# Altium schematic symbol library Schematic-Lib-PhilsLab-DESKTOP-JMR591K.SchLib: 499 symbols (part 2 of 6)
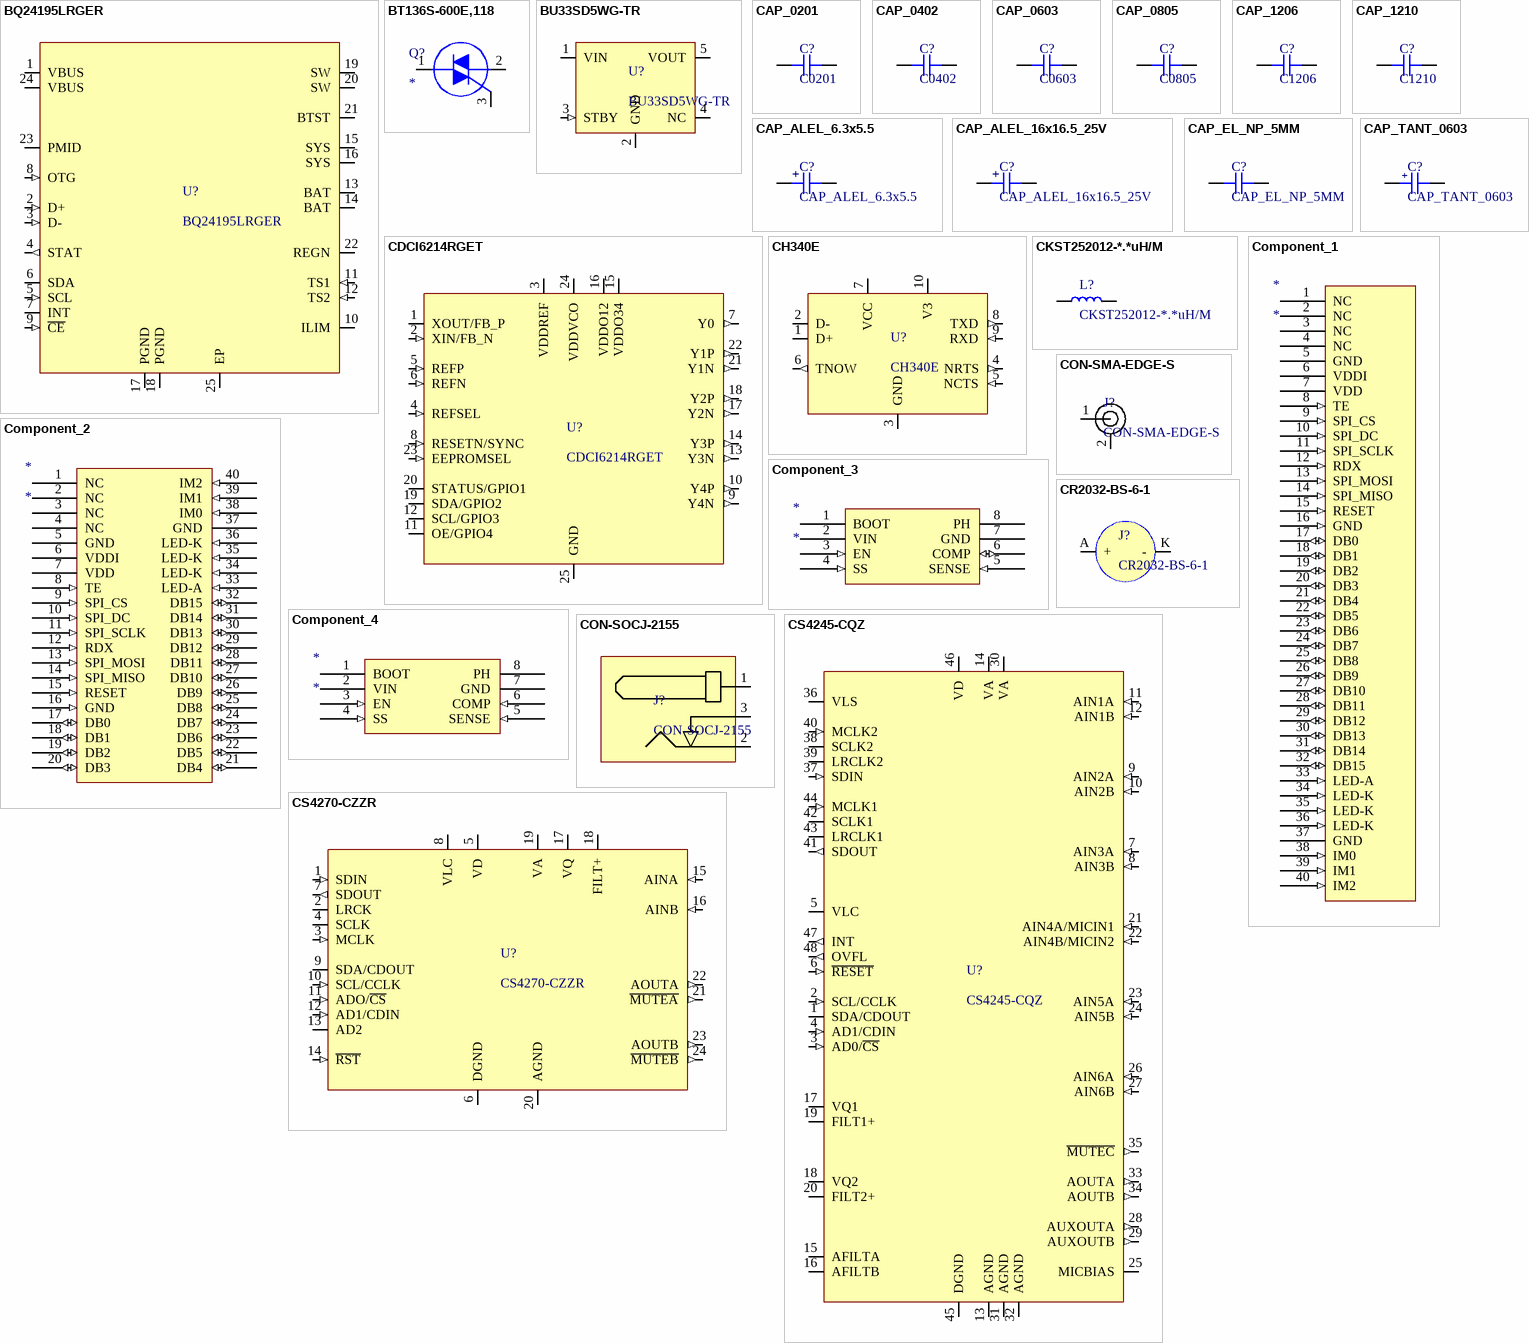
[diagram p36: symbols BQ24195LRGER to CS4270-CZZR]

## BU33SD5WG-TR
designator U?
LDO Voltage Regulator 3.3V 500mA; Manufacturer: ROHM Semiconductor; Manufacturer Part Number: BU33SD5WG-TR
footprint SOT-23-5 (SOT23, 5-Leads, Body 2,90x2,80mm, Pitch 0,95mm, IPC Medium Density)
pins: 1 VIN (power), 2 GND (power), 3 STBY (in), 4 NC, 5 VOUT (power)

## CAP_0201
designator C?, comment C0201
Capacitor SMD 0201; Manufacturer: *; Manufacturer Part Number: *; Distributor Link: *; LCSC: *; Rating: *; Dielectric: *
footprint CAP_0201
pins: 1, 2

## CAP_0402
designator C?, comment C0402
Capacitor SMD 0402; Manufacturer: *; Manufacturer Part Number: *; Distributor Link: *; LCSC: *; Rating: *; Dielectric: *
footprint CAP_0402
pins: 1, 2

## CAP_0603
designator C?, comment C0603
Capacitor SMD 0603; Manufacturer: *; Manufacturer Part Number: *; Distributor Link: *; LCSC: *; Rating: *; Dielectric: *
footprint CAP_0603
pins: 1, 2

## CAP_0805
designator C?, comment C0805
Capacitor SMD 0805; Manufacturer: *; Manufacturer Part Number: *; Distributor Link: *; LCSC: *; Rating: *; Dielectric: *
footprint CAP_0805
pins: 1, 2

## CAP_1206
designator C?, comment C1206
Capacitor SMD 1206; Manufacturer: *; Manufacturer Part Number: *; Distributor Link: *; LCSC: *; Rating: *; Dielectric: *
footprint CAP_1206
pins: 1, 2

## CAP_1210
designator C?, comment C1210
Capacitor SMD 1210; Manufacturer: *; Manufacturer Part Number: *; Distributor Link: *; LCSC: *; Rating: *; Dielectric: *
footprint CAP_1210
pins: 1, 2

## CAP_ALEL_6.3x5.5
designator C?
Capacitor SMD Aluminium Electrolytic 6.3mm Diameter 5.5mm Height; Manufacturer: *; Manufacturer Part Number: *; Distributor Link: *; LCSC: *
footprint CAP_AE_SMD_D6MM3_H5M55 (Aluminum Electrolytic Capacitor, Body 6.30x6.60x5.50mm, IPC Low Density)
pins: 1, 2
text: +

## CAP_ALEL_16x16.5_25V
designator C?
Capacitor SMD Aluminium Electrolytic 16x16.5mm 25V; Manufacturer: *; Manufacturer Part Number: *
footprint CAP_ALEL_16x16.5 (Aluminum Electrolytic Capacitor, Body 17.00x17.00x17.00mm, IPC Low Density)
pins: 1, 2
text: +

## CAP_EL_NP_5MM
designator C?
Capacitor SMD Electrolytic Non-Polarised 5mm Diameter; Manufacturer: Nichicon; Manufacturer Part Number: *
footprint CAP-EL-NP-5MM
pins: 1, 2

## CAP_TANT_0603
designator C?
Capacitor SMD Tantalum 0603; Manufacturer: *; Manufacturer Part Number: *; Distributor Link: *; LCSC: *
footprint CAP_TANT_0603
pins: A, K
text: +

## CDCI6214RGET
designator U?
Ultra-Low Power Clock Generator With PCIe Support Four Programmable Outputs and EEPROM; Manufacturer: Texas Instruments; Manufacturer Part Number: CDCI6214RGET; Distributor Link: https://eu.mouser.com/ProductDetail/Texas-Instruments/CDCI6214RGET?qs=HXFqYaX1Q2znJq%252BVfYpkgA%3D%3D; LCSC: C2651236
footprint VQFN-24-0MM5
pins: 1 XOUT/FB_P (io), 2 XIN/FB_N (in), 3 VDDREF (power), 4 REFSEL (in), 5 REFP (in), 6 REFN (in), 7 Y0 (out), 8 RESETN/SYNC (in), 9 Y4N (out), 10 Y4P (out), 11 OE/GPIO4 (io), 12 SCL/GPIO3 (io), 13 Y3N (out), 14 Y3P (out), 15 VDDO34 (power), 16 VDDO12 (power), 17 Y2N (out), 18 Y2P (out), 19 SDA/GPIO2 (io), 20 STATUS/GPIO1 (io), 21 Y1N (out), 22 Y1P (out), 23 EEPROMSEL (in), 24 VDDVCO (power), 25 GND (power)

## CH340E
designator U?
USB-to-UART Transceiver MSOP-10; Manufacturer Part Number: CH340E
footprint MSOP-10
pins: 1 D+ (io), 2 D- (io), 3 GND (power), 4 NRTS (out), 5 NCTS (in), 6 TNOW (out), 7 VCC (power), 8 TXD (out), 9 RXD (in), 10 V3 (power)

## CKST252012-*.*uH/M
designator L?
Inductor SMD Shielded 20%; Manufacturer: Shenzhen Cenker Enterprise Ltd; Manufacturer Part Number: CKST252012-*.*uH/M; Distributor Link: *
footprint CKST252012
pins: 1, 2

## Component_1
designator *
footprint TFT 3.5 Screen
pins: 1 NC (oc), 2 NC (oc), 3 NC (oc), 4 NC (oc), 5 GND (power), 6 VDDI (power), 7 VDD (power), 8 TE (in), 9 SPI_CS (in), 10 SPI_DC (in), 11 SPI_SCLK (in), 12 RDX (in), 13 SPI_MOSI (in), 14 SPI_MISO (in), 15 RESET (in), 16 GND (in), 17 DB0 (io), 18 DB1 (io), 19 DB2 (io), 20 DB3 (io), 21 DB4 (io), 22 DB5 (io), 23 DB6 (io), 24 DB7 (io), 25 DB8 (io), 26 DB9 (io), 27 DB10 (io), 28 DB11 (io), 29 DB12 (io), 30 DB13 (io), 31 DB14 (io), 32 DB15 (io), 33 LED-A (in), 34 LED-K (in), 35 LED-K (in), 36 LED-K (in), 37 GND (power), 38 IM0 (in), 39 IM1 (in), 40 IM2 (in)

## Component_2
designator *
pins: 1 NC (oc), 2 NC (oc), 3 NC (oc), 4 NC (oc), 5 GND (power), 6 VDDI (power), 7 VDD (power), 8 TE (in), 9 SPI_CS (in), 10 SPI_DC (in), 11 SPI_SCLK (in), 12 RDX (in), 13 SPI_MOSI (in), 14 SPI_MISO (in), 15 RESET (in), 16 GND (in), 17 DB0 (io), 18 DB1 (io), 19 DB2 (io), 20 DB3 (io), 21 DB4 (io), 22 DB5 (io), 23 DB6 (io), 24 DB7 (io), 25 DB8 (io), 26 DB9 (io), 27 DB10 (io), 28 DB11 (io), 29 DB12 (io), 30 DB13 (io), 31 DB14 (io), 32 DB15 (io), 33 LED-A (in), 34 LED-K (in), 35 LED-K (in), 36 LED-K (in), 37 GND (power), 38 IM0 (in), 39 IM1 (in), 40 IM2 (in)

## Component_3
designator *
footprint SOIC127P600X175-8N (SOIC, 8-Leads, Body 4.91x3.90mm, Pitch 1.27mm, IPC Medium Density)
pins: 1 BOOT (power), 2 VIN (power), 3 EN (in), 4 SS (in), 5 SENSE (in), 6 COMP (io), 7 GND (power), 8 PH (power)

## Component_4
designator *
pins: 1 BOOT (power), 2 VIN (power), 3 EN (in), 4 SS (in), 5 SENSE (in), 6 COMP (in), 7 GND (power), 8 PH (power)

## CON-SMA-EDGE-S
designator J?
RF Connector SMA Female 50 Ohms 18 GHz PCB Edge Mount; Manufacturer: RF Solutions; Manufacturer Part Number: CON-SMA-EDGE-S
footprint CON-SMA-EDGE-S
pins: 1, 2

## CON-SOCJ-2155
designator J?
DC Barrell Jack 2.1mm 30V 2.5A THT; Manufacturer: Gravitech; Manufacturer Part Number: CON-SOCJ-2155
footprint CON-SOCJ-2155
pins: 1, 2, 3

## CR2032-BS-6-1
designator J?
CR2032 Coin Cell Battery Holder; Manufacturer: Q&J; Manufacturer Part Number: CR2032-BS-6-1
footprint CR2032
pins: A +, K -

## CS4245-CQZ
designator U?
104 dB, 24-Bit, 192 kHz Stereo Audio Codec; Manufacturer: Cirrus Logic; Manufacturer Part Number: CS4245-CQZ
footprint LQFP-48
pins: 1 SDA/CDOUT (io), 2 SCL/CCLK (in), 3 AD0/~{CS} (in), 4 AD1/CDIN (in), 5 VLC (power), 6 ~{RESET} (in), 7 AIN3A (in), 8 AIN3B (in), 9 AIN2A (in), 10 AIN2B (in), 11 AIN1A (in), 12 AIN1B (in), 13 AGND (power), 14 VA (power), 15 AFILTA (power), 16 AFILTB (power), 17 VQ1 (power), 18 VQ2 (power), 19 FILT1+ (power), 20 FILT2+ (power), 21 AIN4A/MICIN1 (in), 22 AIN4B/MICIN2 (in), 23 AIN5A (in), 24 AIN5B (in), 25 MICBIAS (power), 26 AIN6A (in), 27 AIN6B (in), 28 AUXOUTA (out), 29 AUXOUTB (out), 30 VA (power), 31 AGND (power), 32 AGND (power), 33 AOUTA (out), 34 AOUTB (out), 35 ~{MUTEC} (out), 36 VLS (power), 37 SDIN (in), 38 SCLK2 (io), 39 LRCLK2 (io), 40 MCLK2 (in), 41 SDOUT (out), 42 SCLK1 (io), 43 LRCLK1 (io), 44 MCLK1 (in), 45 DGND (power), 46 VD (power), 47 INT (out), 48 OVFL (out)

## CS4270-CZZR
designator U?
24-Bit 192kHz Stereo Audio Codec TSSOP-24; Manufacturer: Cirrus Logic; Manufacturer Part Number: CS4270-CZZR
footprint TSSOP-24
pins: 1 SDIN (in), 2 LRCK (io), 3 MCLK (in), 4 SCLK (io), 5 VD (power), 6 DGND (power), 7 SDOUT (out), 8 VLC (power), 9 SDA/CDOUT (io), 10 SCL/CCLK (in), 11 ADO/~{CS} (in), 12 AD1/CDIN (in), 13 AD2, 14 ~{RST} (in), 15 AINA (in), 16 AINB (in), 17 VQ (power), 18 FILT+ (power), 19 VA (power), 20 AGND (power), 21 ~{MUTEA} (out), 22 AOUTA (out), 23 AOUTB (out), 24 ~{MUTEB} (out)

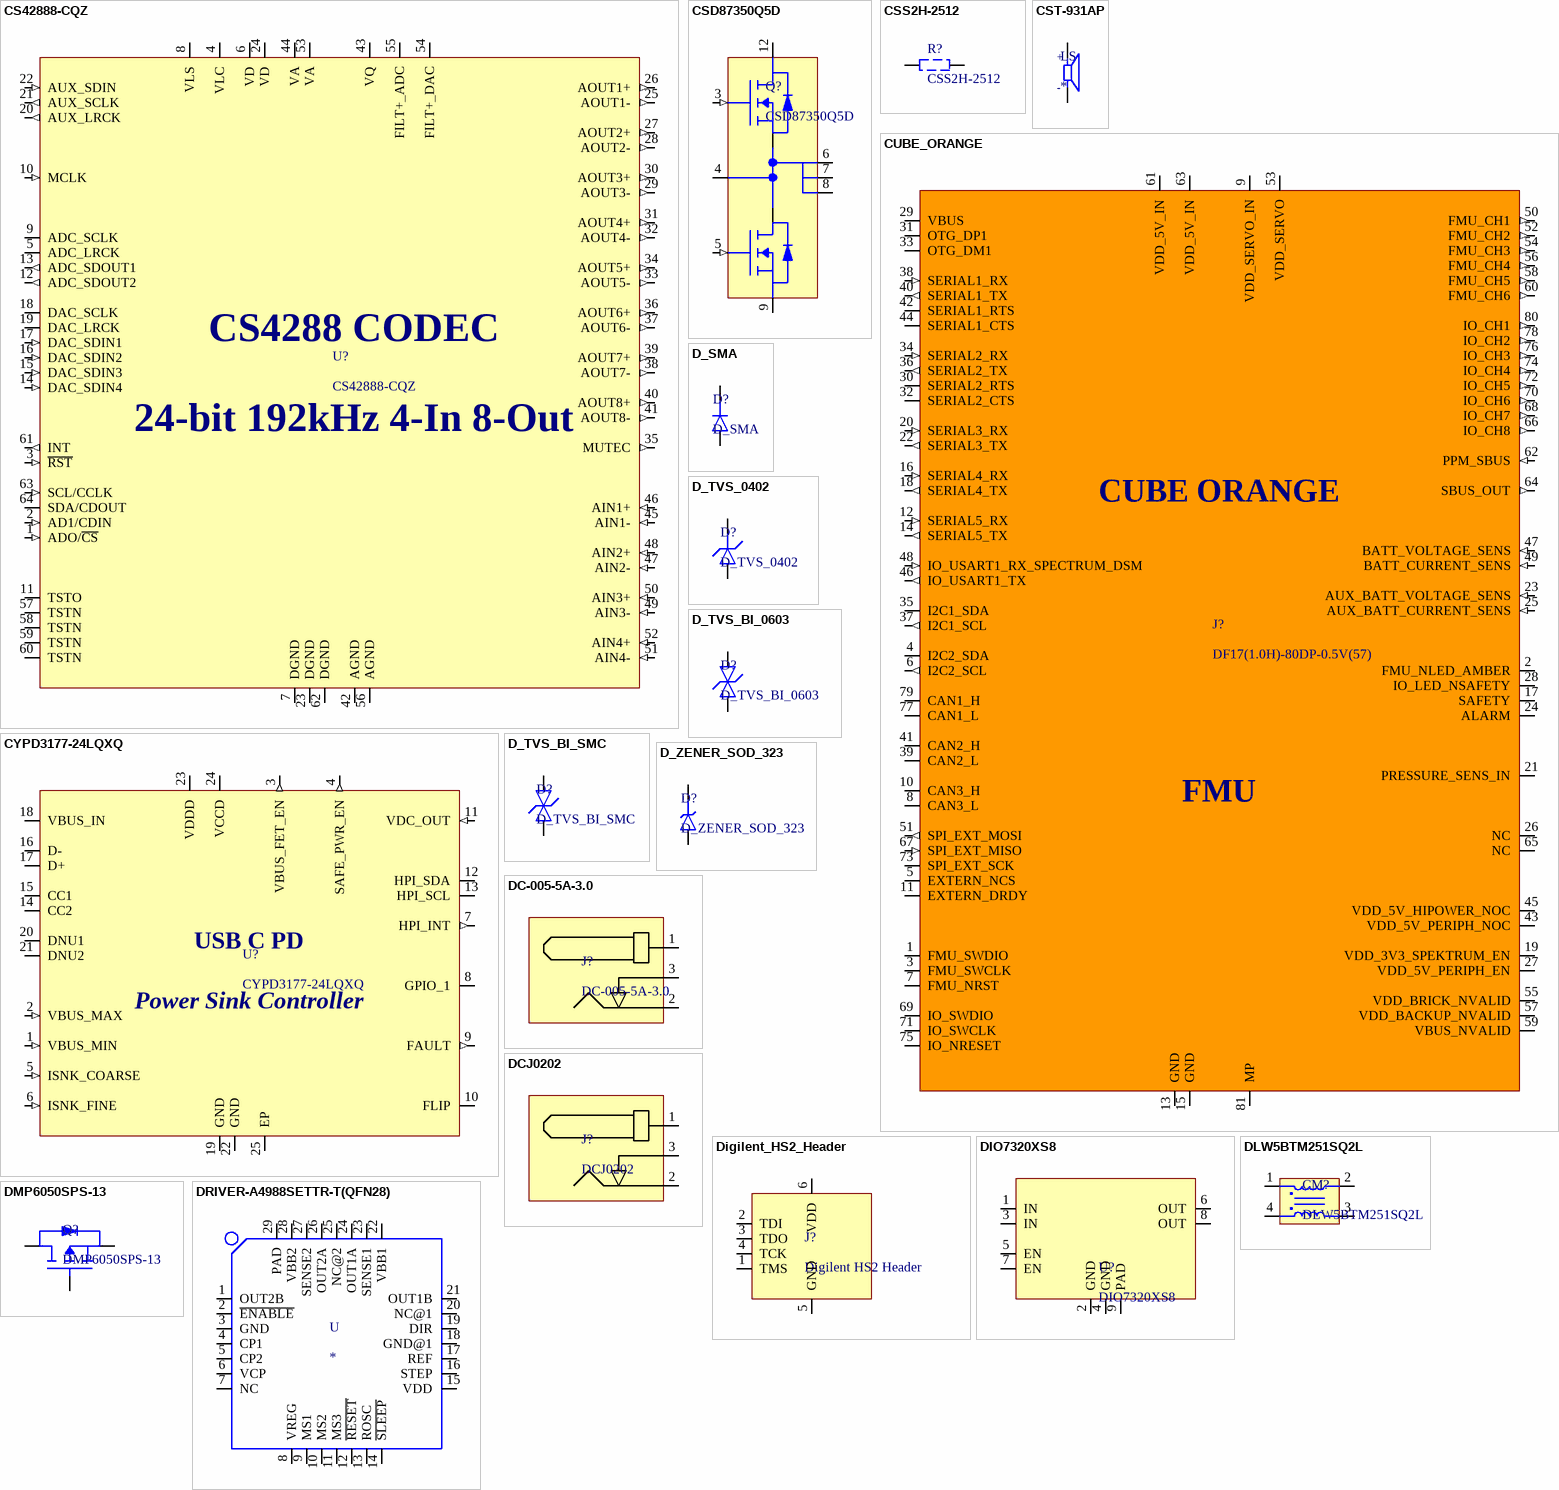
[diagram p8: symbols CS42888-CQZ to DRIVER-A4988SETTR-T(QFN28)]

## CS42888-CQZ
designator U?
CODEC 108dB 192kHz 4-In 8-Out LQFP-64 Commercial Grade; Manufacturer: Cirrus Logic; Manufacturer Part Number: CS42888-CQZ
footprint LQFP-64-0.5mm (TSQFP, 64-Leads, Body 10.00x10.00mm, Pitch 0.50mm, IPC Medium Density)
pins: 1 ADO/~{CS} (in), 2 AD1/CDIN (in), 3 ~{RST} (in), 4 VLC (power), 5 ADC_LRCK (io), 6 VD (power), 7 DGND (power), 8 VLS (power), 9 ADC_SCLK (io), 10 MCLK (in), 11 TSTO, 12 ADC_SDOUT2 (out), 13 ADC_SDOUT1 (out), 14 DAC_SDIN4 (in), 15 DAC_SDIN3 (in), 16 DAC_SDIN2 (in), 17 DAC_SDIN1 (in), 18 DAC_SCLK (io), 19 DAC_LRCK (io), 20 AUX_LRCK (out), 21 AUX_SCLK (out), 22 AUX_SDIN (in), 23 DGND (power), 24 VD (power), 25 AOUT1- (out), 26 AOUT1+ (out), 27 AOUT2+ (out), 28 AOUT2- (out), 29 AOUT3- (out), 30 AOUT3+ (out), 31 AOUT4+ (out), 32 AOUT4- (out), 33 AOUT5- (out), 34 AOUT5+ (out), 35 MUTEC (out), 36 AOUT6+ (out), 37 AOUT6- (out), 38 AOUT7- (out), 39 AOUT7+ (out), 40 AOUT8+ (out), 41 AOUT8- (out), 42 AGND (power), 43 VQ (power), 44 VA (power), 45 AIN1- (in), 46 AIN1+ (in), 47 AIN2- (in), 48 AIN2+ (in), 49 AIN3- (in), 50 AIN3+ (in), 51 AIN4- (in), 52 AIN4+ (in), 53 VA (power), 54 FILT+_DAC (power), 55 FILT+_ADC (power), 56 AGND (power), 57 TSTN, 58 TSTN, 59 TSTN, 60 TSTN, 61 INT (out), 62 DGND (power), 63 SCL/CCLK (in), 64 SDA/CDOUT (io)
text: CS4288 CODEC; 24-bit 192kHz 4-In 8-Out

## CSD87350Q5D
designator Q?
Synchronous Buck NexFET™ Power Block; Manufacturer: Texas Instruments; Manufacturer Part Number: CSD87350Q5D; Distributor Link: https://eu.mouser.com/ProductDetail/Texas-Instruments/CSD87350Q5D?qs=JoYuLptCJEEhVuDl%2F9%2FpHA%3D%3D; LCSC: C140356
footprint LSON-CLIP-8
pins: 3 TG (in), 4 TGR, 5 BG (in), 6 VSW (power), 7 VSW (power), 8 VSW (power), 9 PGND (power), 12 VIN (power), D, S

## CSS2H-2512
designator R?
Current Sense Resistor SMD CSS2H-2512; Manufacturer: Bourns; Manufacturer Part Number: CSS2H-2512
footprint CSS2H-2512
pins: 1, 2

## CST-931AP
designator LS
9 mm, 3 V, 85 dB, Through Hole, Magnetic Audio Transducer Buzzer; MP: CST-931AP; MF: CUI Devices; Price: None; Availability: Unavailable; Package: CUI Inc.; CUI_purchase_URL: https://www.cuidevices.com/product/audio/buzzers/audio-transducers/cst-931ap?utm_source=snapeda.com&utm_medium=referral&utm_campaign=snapedaBOM; Value: *; SnapEDA_Link: https://www.snapeda.com/parts/CST-931AP/CUI%20Devices/view-part/1551284/?ref=snap
footprint CUI_CST-931AP
pins: M, P
text: +; -

## CUBE_ORANGE
designator J?, comment DF17(1.0H)-80DP-0.5V(57)
Cube Orange Pinout (Hirose DF17(1.0H)-80DP-0.5V(57) Connector); Manufacturer: Hirose; Manufacturer Part Number: DF17(1.0H)-80DP-0.5V(57)
footprint CUBE_ORANGE
pins: 1 FMU_SWDIO, 2 FMU_NLED_AMBER, 3 FMU_SWCLK, 4 I2C2_SDA (io), 5 EXTERN_NCS, 6 I2C2_SCL (out), 7 FMU_NRST, 8 CAN3_L (io), 9 VDD_SERVO_IN, 10 CAN3_H (io), 11 EXTERN_DRDY, 12 SERIAL5_RX (in), 13 GND, 14 SERIAL5_TX (out), 15 GND, 16 SERIAL4_RX (in), 17 SAFETY, 18 SERIAL4_TX (out), 19 VDD_3V3_SPEKTRUM_EN, 20 SERIAL3_RX (in), 21 PRESSURE_SENS_IN, 22 SERIAL3_TX (out), 23 AUX_BATT_VOLTAGE_SENS (in), 24 ALARM, 25 AUX_BATT_CURRENT_SENS (in), 26 NC, 27 VDD_5V_PERIPH_EN, 28 IO_LED_NSAFETY, 29 VBUS, 30 SERIAL2_RTS, 31 OTG_DP1 (io), 32 SERIAL2_CTS, 33 OTG_DM1 (io), 34 SERIAL2_RX (in), 35 I2C1_SDA (io), 36 SERIAL2_TX (out), 37 I2C1_SCL (out), 38 SERIAL1_RX (in), 39 CAN2_L (io), 40 SERIAL1_TX (out), 41 CAN2_H (io), 42 SERIAL1_RTS, 43 VDD_5V_PERIPH_NOC, 44 SERIAL1_CTS, 45 VDD_5V_HIPOWER_NOC, 46 IO_USART1_TX (out), 47 BATT_VOLTAGE_SENS (in), 48 IO_USART1_RX_SPECTRUM_DSM (in), 49 BATT_CURRENT_SENS (in), 50 FMU_CH1 (out), 51 SPI_EXT_MOSI (out), 52 FMU_CH2 (out), 53 VDD_SERVO, 54 FMU_CH3 (out), 55 VDD_BRICK_NVALID, 56 FMU_CH4 (out), 57 VDD_BACKUP_NVALID, 58 FMU_CH5 (out), 59 VBUS_NVALID, 60 FMU_CH6 (out), 61 VDD_5V_IN, 62 PPM_SBUS (in), 63 VDD_5V_IN, 64 SBUS_OUT (out), 65 NC, 66 IO_CH8 (out), 67 SPI_EXT_MISO (in), 68 IO_CH7 (out), 69 IO_SWDIO, 70 IO_CH6 (out), 71 IO_SWCLK, 72 IO_CH5 (out), 73 SPI_EXT_SCK, 74 IO_CH4 (out), 75 IO_NRESET, 76 IO_CH3 (out), 77 CAN1_L (io), 78 IO_CH2 (out), 79 CAN1_H (io), 80 IO_CH1 (out), 81 MP
text: CUBE ORANGE; FMU

## CYPD3177-24LQXQ
designator U?
USB Type-C Port Controller for Power Sinks; Manufacturer: Cypress Semicon; Manufacturer Part Number: CYPD3177-24LQXQ; Distributor Link: https://www.lcsc.com/product-detail/USB-ICs_Cypress-Semicon-CYPD3177-24LQXQ_C2959321.html
footprint QFN-24-0MM5
pins: 1 VBUS_MIN (in), 2 VBUS_MAX (in), 3 VBUS_FET_EN (out), 4 SAFE_PWR_EN (out), 5 ISNK_COARSE (in), 6 ISNK_FINE (in), 7 HPI_INT (out), 8 GPIO_1 (io), 9 FAULT (out), 10 FLIP (oc), 11 VDC_OUT (in), 12 HPI_SDA (oc), 13 HPI_SCL (oc), 14 CC2 (io), 15 CC1 (io), 16 D-, 17 D+, 18 VBUS_IN (power), 19 GND (power), 20 DNU1, 21 DNU2, 22 GND (power), 23 VDDD (power), 24 VCCD (power), 25 EP (power)
text: USB C PD; Power Sink Controller

## D_SMA
designator D?
Diode SMD SMA (DO-214AA)
footprint DO-214AC-2 (SMA)
pins: A, K

## D_TVS_0402
designator D?
Diode TVS / ESD 0402
footprint D_0402
pins: A, K

## D_TVS_BI_0603
designator D?
Diode TVS / ESD Bidirectional 0603; Manufacturer: *; Manufacturer Part Number: *
footprint D_0603
pins: A, K

## D_TVS_BI_SMC
designator D?
Diode TVS / ESD Bidirectional SMC (DO-214AB); Manufacturer: *; Manufacturer Part Number: *; Distributor Link: *
footprint SMC-DO-214AB
pins: A, K

## D_ZENER_SOD_323
designator D?
Diode Zener SMD SOD-323
footprint SOD-323
pins: A, K

## DC-005-5A-3.0
designator J?
DC Barrell Jack 6.2mm 5 A3.0mm Through Hole; Parameter 1: XKB; Parameter 2: DC-005-5A-3.0
footprint DC-005-5A-3.0
pins: 1, 2, 3

## DCJ0202
designator J?
DC Barrell Jack 2.1mm 24V 5A THT; Manufacturer: CONEC; Manufacturer Part Number: DCJ0202
footprint DCJ0202
pins: 1, 2, 3

## Digilent_HS2_Header
designator J?, comment Digilent HS2 Header
Digilent HS2 6-Pin 2.54mm Pitch Header; Manufacturer: Amphenol FCI; Manufacturer Part Number: 68000-406HLF
footprint DIGILENT_HS2
pins: 1 TMS, 2 TDI, 3 TDO, 4 TCK, 5 GND (power), 6 VDD (power)

## DIO7320XS8
designator U?
Power Distribution 5.5V 5A Load switch with slew rate control and reverse current blocking; Manufacturer: DIOO; Manufacturer Part Number: DIO7320XS8
footprint SOIC127P600X165_HS-9N (SOIC, 8-Leads, Body 4.90x3.90mm, Pitch 1.27mm, Thermal Pad 3.10x2.21mm, IPC Medium Density)
pins: 1 IN, 2 GND, 3 IN, 4 GND, 5 EN, 6 OUT, 7 EN, 8 OUT, 9 PAD

## DLW5BTM251SQ2L
designator CM?
Common Mode Choke 5A 250R 20mR; Manufacturer: Murata; Manufacturer Part Number: DLW5BTM251SQ2L; Distributor Link: https://www.mouser.de/ProductDetail/Murata-Electronics/DLW5BTM251SQ2L?qs=6RPrPjhwTH9TmsO%252BRNiuwA%3D%3D; LCSC: C576407
footprint CMC-2020
pins: 1, 2, 3, 4

## DMP6050SPS-13
designator Q?
MOSFET P-Channel Vds=60V Vgs=+-20V Id=26A Rds(on|=50mOhms; Manufacturer: Diodes Incorporated; Manufacturer Part Number: DMP6050SPS-13
footprint PowerDI5060-8
pins: 1 D, 2 G, 3 S

## DRIVER-A4988SETTR-T(QFN28)
designator U
Bipolar Motor Driver DMOS Logic 28-QFN _5x5_; MF: Allegro MicroSystems LLC; MP: A4988SETTRT; Price: None; Availability: Unavailable; SnapEDA_Link: https://www.snapeda.com/parts/A4988SETTRT/Allegro%20MicroSystems%20LLC/view-part/75870/?ref=snap; Value: *; Package: QFN-28 Allegro MicroSystems LLC
footprint QFN28G_0.5-5X5MM
pins: 1 OUT2B (io), 2 ~{ENABLE} (io), 3 GND (io), 4 CP1 (io), 5 CP2 (io), 6 VCP (io), 7 NC (io), 8 VREG (io), 9 MS1 (io), 10 MS2 (io), 11 MS3 (io), 12 ~{RESET} (io), 13 ROSC (io), 14 ~{SLEEP} (io), 15 VDD (io), 16 STEP (io), 17 REF (io), 18 GND@1 (io), 19 DIR (io), 20 NC@1 (io), 21 OUT1B (io), 22 VBB1 (io), 23 SENSE1 (io), 24 OUT1A (io), 25 NC@2 (io), 26 OUT2A (io), 27 SENSE2 (io), 28 VBB2 (io), 29 PAD (io)

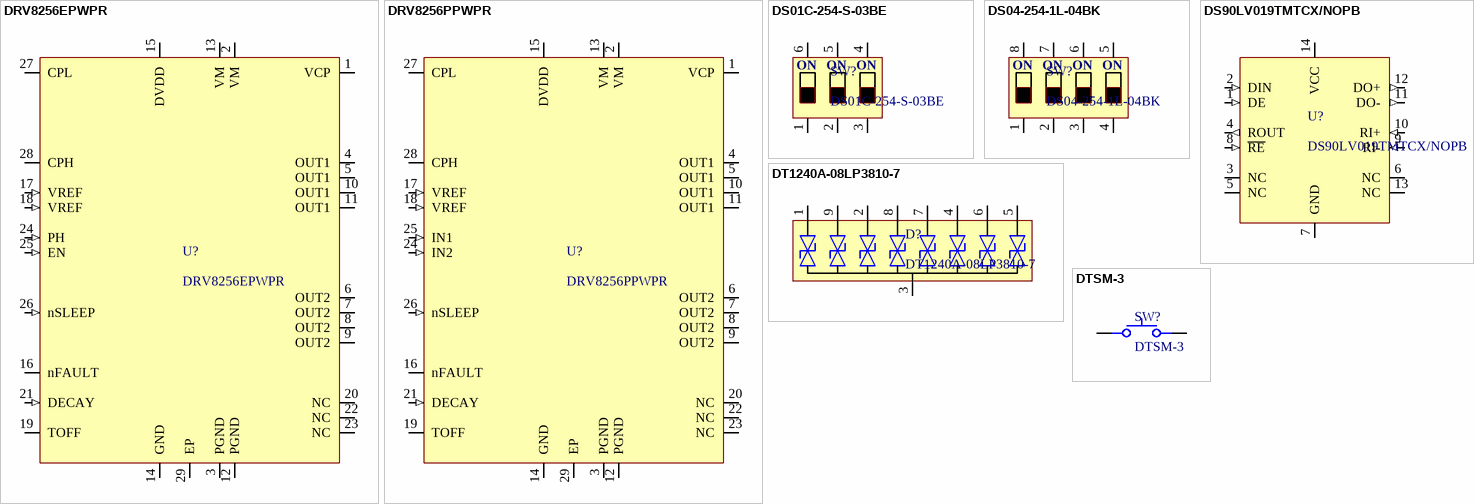
[diagram p9: symbols DRV8256EPWPR to DTSM-3]

## DRV8256EPWPR
designator U?
H-Bridge Motor Driver With Integrated Current Sense, 4.5V to 48V, 8A; Manufacturer: Texas Instruments; Manufacturer Part Number: DRV8256EPWPR
footprint TSSOP-28-PowerPAD (TSOP, 28-Leads, Body 9.70x4.40mm, Pitch 0.65mm, Thermal Pad 4.05x3.10mm, IPC Medium Density)
pins: 1 VCP (power), 2 VM (power), 3 PGND (power), 4 OUT1 (power), 5 OUT1 (power), 6 OUT2 (power), 7 OUT2 (power), 8 OUT2 (power), 9 OUT2 (power), 10 OUT1 (power), 11 OUT1 (power), 12 PGND (power), 13 VM (power), 14 GND (power), 15 DVDD (power), 16 nFAULT (oc), 17 VREF (in), 18 VREF (in), 19 TOFF, 20 NC, 21 DECAY (in), 22 NC, 23 NC, 24 PH (in), 25 EN (in), 26 nSLEEP (in), 27 CPL (power), 28 CPH (power), 29 EP (power)

## DRV8256PPWPR
designator U?
H-Bridge Motor Driver With Integrated Current Sense, 4.5V to 48V, 8A; Manufacturer: Texas Instruments; Manufacturer Part Number: DRV8256PPWPR
footprint TSSOP-28-PowerPAD (TSOP, 28-Leads, Body 9.70x4.40mm, Pitch 0.65mm, Thermal Pad 4.05x3.10mm, IPC Medium Density)
pins: 1 VCP (power), 2 VM (power), 3 PGND (power), 4 OUT1 (power), 5 OUT1 (power), 6 OUT2 (power), 7 OUT2 (power), 8 OUT2 (power), 9 OUT2 (power), 10 OUT1 (power), 11 OUT1 (power), 12 PGND (power), 13 VM (power), 14 GND (power), 15 DVDD (power), 16 nFAULT (oc), 17 VREF (in), 18 VREF (in), 19 TOFF, 20 NC, 21 DECAY (in), 22 NC, 23 NC, 24 IN2 (in), 25 IN1 (in), 26 nSLEEP (in), 27 CPL (power), 28 CPH (power), 29 EP (power)

## DS01C-254-S-03BE
designator SW?
DIP Switch SPST 3 Positions Short Pins 2.54mm Pitch; Manufacturer: CUI Devices; Manufacturer Part Number: DS01C-254-S-03BE
footprint DS01C-254-S-03BE
pins: 1, 2, 3, 4, 5, 6
text: ON

## DS04-254-1L-04BK
designator SW?
DIP Switch SPST 4 Positions Short Pins 2.54mm Pitch; Manufacturer: CUI Devices; Manufacturer Part Number: DS04-254-1L-04BK; Distributor Link: https://www.mouser.de/ProductDetail/CUI-Devices/DS04-254-1L-04BK?qs=wnTfsH77Xs6GCysQKZgHrw%3D%3D
footprint DS04-254-1L-04BK
pins: 1, 2, 3, 4, 5, 6, 7, 8
text: ON

## DS90LV019TMTCX/NOPB
designator U?
LVDS Driver/Receiver; Manufacturer: Texas Instruments; Manufacturer Part Number: DS90LV019TMTCX/NOPB; Distributor Link: https://eu.mouser.com/ProductDetail/Texas-Instruments/DS90LV019TMTCX-NOPB?qs=X1J7HmVL2ZGfxU9NrWVkiA%3D%3D; LCSC: C87061
footprint TSSOP-14
pins: 1 DE (in), 2 DIN (in), 3 NC, 4 ROUT (out), 5 NC, 6 NC, 7 GND (power), 8 ~{RE} (in), 9 RI- (in), 10 RI+ (in), 11 DO- (out), 12 DO+ (out), 13 NC, 14 VCC (power)

## DT1240A-08LP3810-7
designator D?
8-CHANNEL LOW CAPACITANCE TVS DIODE ARRAY 0.6pF; Manufacturer: Diodes Incorporated; Manufacturer Part Number: DT1240A-08LP3810-7
footprint DFN3810B-9
pins: 1 L1, 2 L3, 3 GND (power), 4 L6, 5 L8, 6 L7, 7 L5, 8 L4, 9 L2

## DTSM-3
designator SW?
Tactile Switch SMD SPST; Manufacturer: Diptronics; Manufacturer Part Number: DTSM-3
footprint DTSM-3
pins: 1, 2

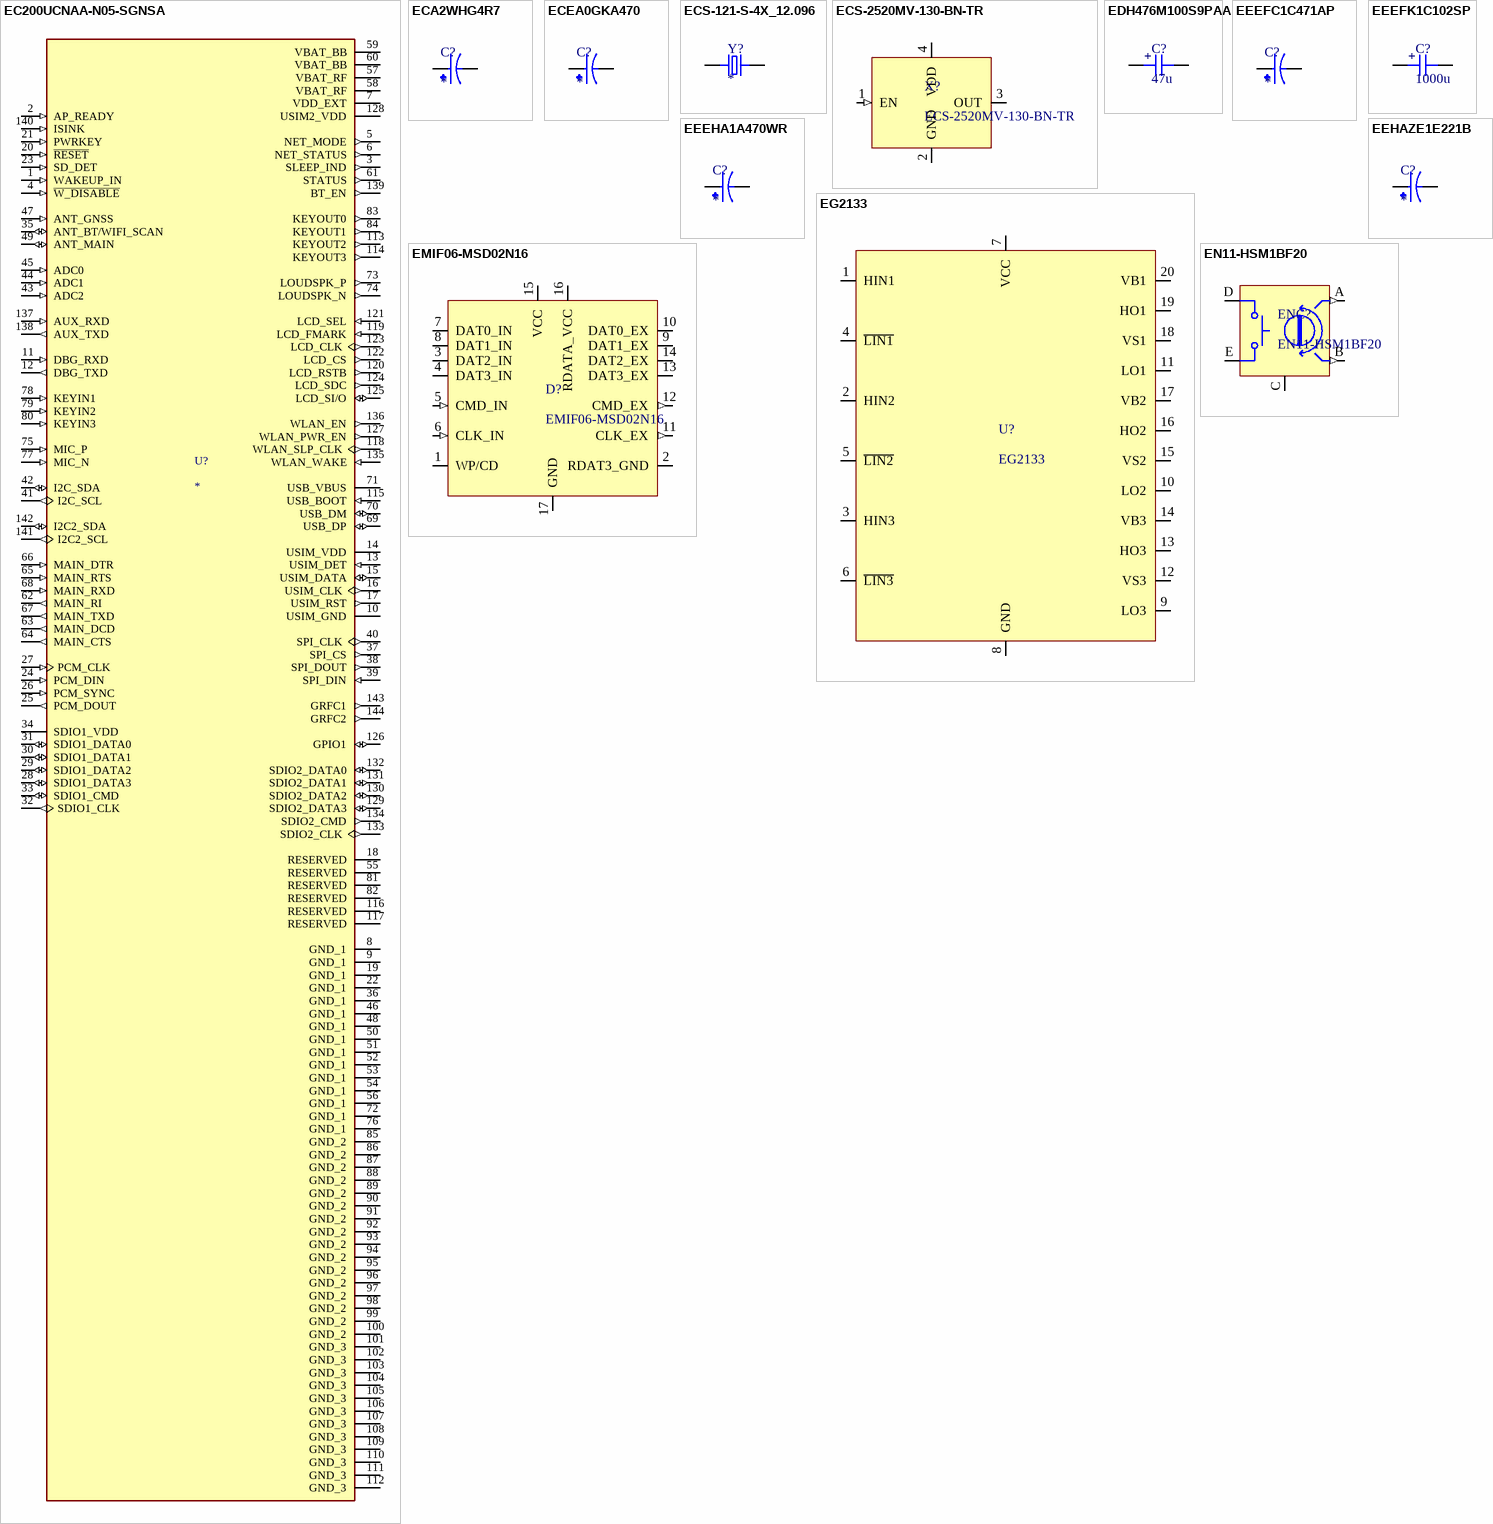
[diagram p10: symbols EC200UCNAA-N05-SGNSA to EN11-HSM1BF20]

## EC200UCNAA-N05-SGNSA
designator U?
Quectel 4G LTE Cat 1 wireless BT GNSS module; MP: EC200UCNAA-N05-SGNSA; SnapEDA_Link: https://www.snapeda.com/parts/EC200UCNAA-N05-SGNSA/Quectel/view-part/?ref=snap; Package: None; Value: *; MF: Quectel; Check_prices: https://www.snapeda.com/parts/EC200UCNAA-N05-SGNSA/Quectel/view-part/?ref=eda
footprint XCVR_EC200UCNAA-N05-SGNSA
pins: 1 WAKEUP_IN (in), 2 AP_READY (in), 3 SLEEP_IND (out), 4 ~{W_DISABLE} (in), 5 NET_MODE (out), 6 NET_STATUS (out), 7 VDD_EXT (power), 8 GND_1 (power), 9 GND_1 (power), 10 USIM_GND (power), 11 DBG_RXD (in), 12 DBG_TXD (out), 13 USIM_DET (in), 14 USIM_VDD (power), 15 USIM_DATA (io), 16 USIM_CLK (out), 17 USIM_RST (out), 18 RESERVED, 19 GND_1 (power), 20 ~{RESET} (in), 21 PWRKEY (in), 22 GND_1 (power), 23 SD_DET (in), 24 PCM_DIN (in), 25 PCM_DOUT (out), 26 PCM_SYNC (in), 27 PCM_CLK (in), 28 SDIO1_DATA3 (io), 29 SDIO1_DATA2 (io), 30 SDIO1_DATA1 (io), 31 SDIO1_DATA0 (io), 32 SDIO1_CLK (out), 33 SDIO1_CMD (io), 34 SDIO1_VDD (power), 35 ANT_BT/WIFI_SCAN (io), 36 GND_1 (power), 37 SPI_CS (out), 38 SPI_DOUT (out), 39 SPI_DIN (in), 40 SPI_CLK (out), 41 I2C_SCL (out), 42 I2C_SDA (io), 43 ADC2 (in), 44 ADC1 (in), 45 ADC0 (in), 46 GND_1 (power), 47 ANT_GNSS (in), 48 GND_1 (power), 49 ANT_MAIN (io), 50 GND_1 (power), 51 GND_1 (power), 52 GND_1 (power), 53 GND_1 (power), 54 GND_1 (power), 55 RESERVED, 56 GND_1 (power), 57 VBAT_RF (power), 58 VBAT_RF (power), 59 VBAT_BB (power), 60 VBAT_BB (power), 61 STATUS (out), 62 MAIN_RI (out), 63 MAIN_DCD (out), 64 MAIN_CTS (out), 65 MAIN_RTS (in), 66 MAIN_DTR (in), 67 MAIN_TXD (out), 68 MAIN_RXD (in), 69 USB_DP (io), 70 USB_DM (io), 71 USB_VBUS (power), 72 GND_1 (power), 73 LOUDSPK_P (out), 74 LOUDSPK_N (out), 75 MIC_P (in), 76 GND_1 (power), 77 MIC_N (in), 78 KEYIN1 (in), 79 KEYIN2 (in), 80 KEYIN3 (in), 81 RESERVED, 82 RESERVED, 83 KEYOUT0 (out), 84 KEYOUT1 (out), 85 GND_2 (power), 86 GND_2 (power), 87 GND_2 (power), 88 GND_2 (power), 89 GND_2 (power), 90 GND_2 (power), 91 GND_2 (power), 92 GND_2 (power), 93 GND_2 (power), 94 GND_2 (power), 95 GND_2 (power), 96 GND_2 (power), 97 GND_2 (power), 98 GND_2 (power), 99 GND_2 (power), 100 GND_2 (power), 101 GND_3 (power), 102 GND_3 (power), 103 GND_3 (power), 104 GND_3 (power), 105 GND_3 (power), 106 GND_3 (power), 107 GND_3 (power), 108 GND_3 (power), 109 GND_3 (power), 110 GND_3 (power), 111 GND_3 (power), 112 GND_3 (power), 113 KEYOUT2 (out), 114 KEYOUT3 (out), 115 USB_BOOT (in), 116 RESERVED, 117 RESERVED, 118 WLAN_SLP_CLK (out), 119 LCD_FMARK (in), 120 LCD_RSTB (out), 121 LCD_SEL (in), 122 LCD_CS (out), 123 LCD_CLK (out), 124 LCD_SDC (out), 125 LCD_SI/O (io), 126 GPIO1 (io), 127 WLAN_PWR_EN (out), 128 USIM2_VDD (power), 129 SDIO2_DATA3 (io), 130 SDIO2_DATA2 (io), 131 SDIO2_DATA1 (io), 132 SDIO2_DATA0 (io), 133 SDIO2_CLK (out), 134 SDIO2_CMD (out), 135 WLAN_WAKE (in), 136 WLAN_EN (out), 137 AUX_RXD (in), 138 AUX_TXD (out), 139 BT_EN (out), 140 ISINK (in), 141 I2C2_SCL (out), 142 I2C2_SDA (io), 143 GRFC1 (out), 144 GRFC2 (out)

## ECA2WHG4R7
designator C?
4.7F 450V Aluminum Electrolytic Capacitors Radial, Can 2000 Hrs @ 105C; MF: Panasonic; MP: ECA2WHG4R7; Check_prices: https://www.snapeda.com/parts/ECA2WHG4R7/Panasonic/view-part/?ref=eda; Purchase-URL: https://pricing.snapeda.com/search/part/ECA2WHG4R7/?ref=eda; Package: RADIAL-2 Panasonic; SnapEDA_Link: https://www.snapeda.com/parts/ECA2WHG4R7/Panasonic/view-part/?ref=snap; Digi-Key_Part_Number: P19573TB-ND; Value: *
footprint CAPPRD500W60D1000H2000
pins: N, P

## ECEA0GKA470
designator C?
CAPACITOR, RADIAL, 4V, 47UF; Capacitance:47F; Capacitance Tolerance: 20%; Voltage Rating:4V; Life Time @ Temperature:1000 hours @ 85C; Height:7mm; Diameter:4mm; Capacitor Terminals:Radial Leaded; Lead Spacing:1.5mm; Operating Temperature Range:-40C to +85C; AC Ripple Current:34mA; Capacitor Application:General Purpose; Capacitor Mounting:Through Hole; MP: ECEA0GKA470; MF: Panasonic; SnapEDA_Link: https://www.snapeda.com/parts/ECEA0GKA470/Panasonic/view-part/?ref=snap; Package: RADIAL-2 Panasonic; Check_prices: https://www.snapeda.com/parts/ECEA0GKA470/Panasonic/view-part/?ref=eda; Purchase-URL: https://pricing.snapeda.com/search/part/ECEA0GKA470/?ref=eda; Price: None; Value: *; Availability: In Stock
footprint CAPPRD150W45D400H700
pins: N, P

## ECS-121-S-4X_12.096
designator Y?
CRYSTAL T/H; MP: ECS-121-S-4X 12.096; Package: None; Price: None; Value: *; Availability: Unavailable
footprint XTAL_ECS-160-20-4X
pins: 1, 2

## ECS-2520MV-130-BN-TR
designator X?
Standard Clock Oscillators XO (Standard),13MHz,Standby (Power Down),CMOS, Multi-Volt,1.6 V 3.6 V,+/-50ppm,-40 C 85 C,6mA,Surface Mount,4-SMD, No Lead,(2.50mm x 2.00mm),(0.80mm); Manufacturer: ECS; Manufacturer Part Number: ECS-2520MV-130-BN-TR
footprint SSOP5
footprint XTAL_2520
pins: 1 EN (in), 2 GND (power), 3 OUT, 4 VDD (power)

## EDH476M100S9PAA
designator C?, comment 47u
Capacitor SMD Aluminium Electrolytic 10.3x10.3x10.2mm 47uF 100V 170mA 2000hrs; Manufacturer: KEMET; Manufacturer Part Number: 170mA
footprint EDH476M100S9PAA
pins: 1, 2
text: +

## EEEFC1C471AP
designator C?
470µF 25V Aluminum Electrolytic Capacitors Radial, Can - SMD 1000 Hrs @ 105Â°C; MP: EEE-FC1C471AP; MF: Panasonic; Package: Radial Panasonic; Check_prices: https://www.snapeda.com/parts/EEE-FC1C471AP/Panasonic%20Electronic%20Components/view-part/51968/?ref=eda; Value: *; Price: None; Availability: In Stock; SnapEDA_Link: https://www.snapeda.com/parts/EEE-FC1C471AP/Panasonic%20Electronic%20Components/view-part/51968/?ref=snap
footprint CAP_EEEFC1C471AP
pins: 1, 2

## EEEFK1C102SP
designator C?, comment 1000u
Capacitor SMD Aluminium Electrolytic 10mm x 10.2mm 16V 20% 2000hrs; Manufacturer: Panasonic; Manufacturer Part Number: EEEFK1C102SP; LCSC: C178532
footprint CAPAE120103X105N (Aluminum Electrolytic Capacitor, Body 10.30x10.30x10.50mm, IPC Medium Density)
pins: 1, 2
text: +

## EEEHA1A470WR
designator C?
47ÂµF 10V Aluminum Electrolytic Capacitors Radial, Can - SMD 1000 Hrs @ 105Â°C; MF: Panasonic; MP: EEE-HA1A470WR; SnapEDA_Link: https://www.snapeda.com/parts/EEE-HA1A470WR/Panasonic/view-part/461961/?ref=snap; Availability: In Stock; Purchase-URL: https://pricing.snapeda.com/search/part/EEE-HA1A470WR/?ref=eda; Check_prices: https://www.snapeda.com/parts/EEE-HA1A470WR/Panasonic/view-part/461961/?ref=eda; Value: *; Package: RADIAL-2 Panasonic; Price: None
footprint CAP_EEEHA1A470WR
pins: 1, 2

## EEHAZE1E221B
designator C?
Panasonic 220?F Hybrid Aluminium Electrolytic Capacitor 25V dc, Through Hole - EEHAZE1E221B; Value: *; MP: EEHAZE1E221B; Package: RADIAL-2 Panasonic; Availability: In Stock; SnapEDA_Link: https://www.snapeda.com/parts/EEHAZE1E221B/Panasonic/view-part/6169436/?ref=snap; Price: None; Purchase-URL: https://pricing.snapeda.com/search/part/EEHAZE1E221B/?ref=eda; Check_prices: https://www.snapeda.com/parts/EEHAZE1E221B/Panasonic/view-part/6169436/?ref=eda; MF: Panasonic
footprint CAPPRD350W60D800H950
pins: N, P

## EG2133
designator U?
Triple Half-Bridge Gate Driver IC TSSOP-20; Manufacturer: EG Micro; Manufacturer Part Number: EG2133; LCSC Part #: C405330
footprint TSSOP-20 (TSOP, 20-Leads, Body 6,50x4,40mm, Pitch 0,65mm, IPC Medium Density)
pins: 1 HIN1, 2 HIN2, 3 HIN3, 4 ~{LIN1}, 5 ~{LIN2}, 6 ~{LIN3}, 7 VCC, 8 GND, 9 LO3, 10 LO2, 11 LO1, 12 VS3, 13 HO3, 14 VB3, 15 VS2, 16 HO2, 17 VB2, 18 VS1, 19 HO1, 20 VB1

## EMIF06-MSD02N16
designator D?
6-line IPAD EMI filter and ESD protection; Manufacturer: STMicroelectronics; Manufacturer Part Number: EMIF06-MSD02N16; Distributor Link: https://www.mouser.de/ProductDetail/STMicroelectronics/EMIF06-MSD02N16?qs=1CGoW%2F3pMwpSqVuN8kmN4Q%3D%3D; LCSC: C5267594
footprint uQFN-3_5x1_2-16L
pins: 1 WP/CD, 2 RDAT3_GND, 3 DAT2_IN (io), 4 DAT3_IN (io), 5 CMD_IN (in), 6 CLK_IN (in), 7 DAT0_IN (io), 8 DAT1_IN (io), 9 DAT1_EX (io), 10 DAT0_EX (io), 11 CLK_EX (out), 12 CMD_EX (out), 13 DAT3_EX (io), 14 DAT2_EX (io), 15 VCC (power), 16 RDATA_VCC (power), 17 GND (power)

## EN11-HSM1BF20
designator ENC?
Rotary Encoder with Switch 20 Detents 7mm Bushing 20mm Threaded Shaft Vertical; Manufacturer: TT Electronics; Manufacturer Part Number: EN11-HSM1BF20; Distributor Link: https://www.mouser.de/ProductDetail/BI-Technologies-TT-Electronics/EN11-HSM1BF20?qs=%252BUYXD5bnyXp4Uf1MU7v3zw%3D%3D
footprint EN11-HSM
pins: A (out), B (out), C GND (power), D, E

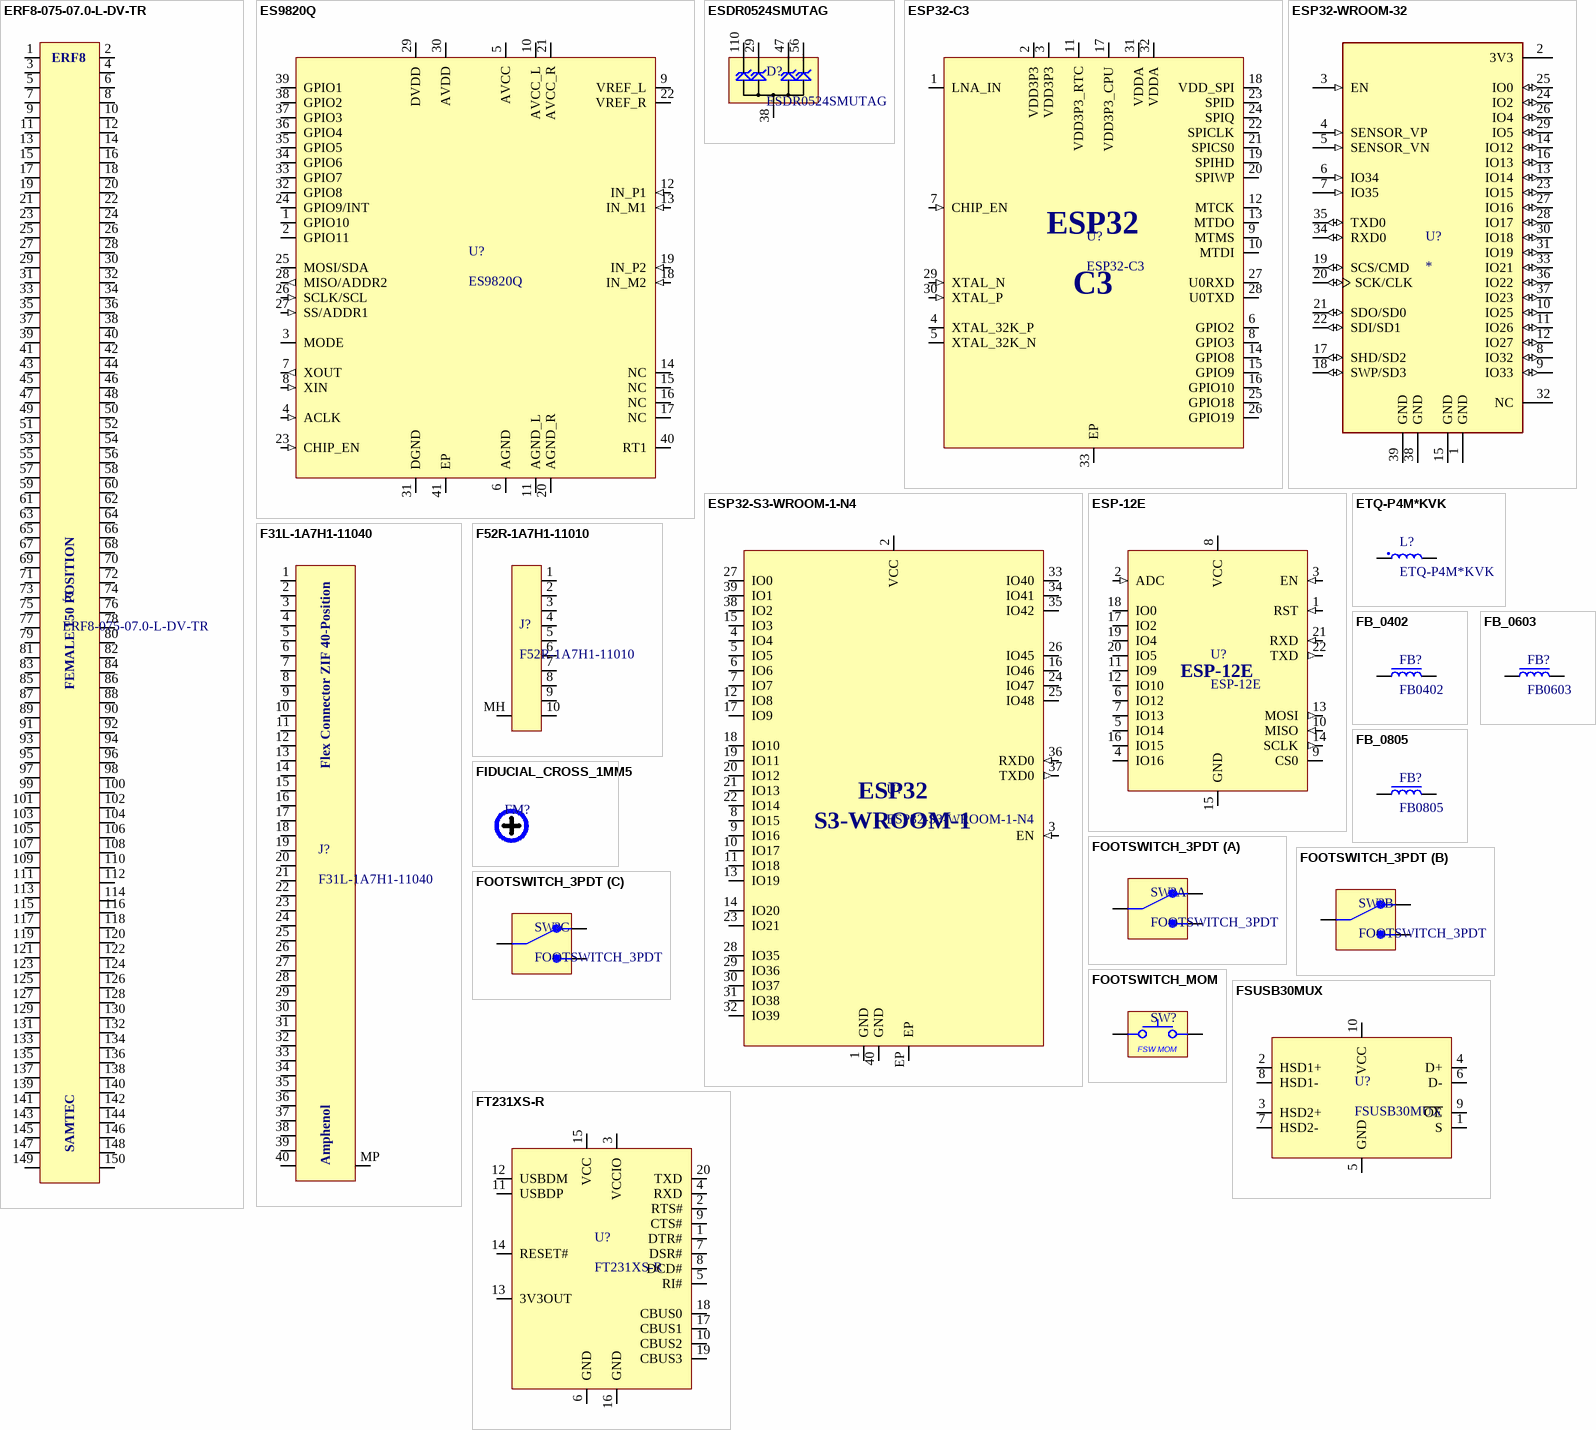
[diagram p11: symbols ERF8-075-07.0-L-DV-TR to FT231XS-R]

## ERF8-075-07.0-L-DV-TR
designator J?
Mezzanine Connector Female Samtec 0.80 mm Edge Rate® Rugged High Speed Socket; Manufacturer: Samtec; Manufacturer Part Number: ERF8-075-07.0-L-DV-TR
footprint ERF8-075-07.0-L-DV-TR
pins: 1, 2, 3, 4, 5, 6, 7, 8, 9, 10, 11, 12, 13, 14, 15, 16, 17, 18, 19, 20, 21, 22, 23, 24, 25, 26, 27, 28, 29, 30, 31, 32, 33, 34, 35, 36, 37, 38, 39, 40, 41, 42, 43, 44, 45, 46, 47, 48, 49, 50, 51, 52, 53, 54, 55, 56, 57, 58, 59, 60, 61, 62, 63, 64, 65, 66, 67, 68, 69, 70, 71, 72, 73, 74, 75, 76, 77, 78, 79, 80, 81, 82, 83, 84, 85, 86, 87, 88, 89, 90, 91, 92, 93, 94, 95, 96, 97, 98, 99, 100, 101, 102, 103, 104, 105, 106, 107, 108, 109, 110, 111, 112, 113, 114, 115, 116, 117, 118, 119, 120, 121, 122, 123, 124, 125, 126, 127, 128, 129, 130, 131, 132, 133, 134, 135, 136, 137, 138, 139, 140, 141, 142, 143, 144, 145, 146, 147, 148, 149, 150
text: ERF8; FEMALE 150 POSITION; SAMTEC

## ES9820Q
designator U?
32-bit High-Performance 2-Channel ADC; Manufacturer: ESS Technology; Manufacturer Part Number: ES9820Q
footprint QFN-40-0.4-EP (QFN 40 Pads 0.4mm Pitch Thermal Pad)
pins: 1 GPIO10 (io), 2 GPIO11 (io), 3 MODE, 4 ACLK (in), 5 AVCC (power), 6 AGND (power), 7 XOUT (out), 8 XIN (in), 9 VREF_L (power), 10 AVCC_L (power), 11 AGND_L (power), 12 IN_P1 (in), 13 IN_M1 (in), 14 NC, 15 NC, 16 NC (hiz), 17 NC, 18 IN_M2 (in), 19 IN_P2 (in), 20 AGND_R (power), 21 AVCC_R (power), 22 VREF_R (power), 23 CHIP_EN (in), 24 GPIO9/INT (io), 25 MOSI/SDA (io), 26 SCLK/SCL (in), 27 SS/ADDR1 (in), 28 MISO/ADDR2 (out), 29 DVDD (power), 30 AVDD (power), 31 DGND (power), 32 GPIO8 (io), 33 GPIO7 (io), 34 GPIO6 (io), 35 GPIO5 (io), 36 GPIO4 (io), 37 GPIO3 (io), 38 GPIO2 (io), 39 GPIO1 (io), 40 RT1, 41 EP (power)

## ESDR0524SMUTAG
designator D?
TVS Diode Array Low Capacitance ESD Protection 4-Channel (Vwork=5V, Vclamp=15V); Manufacturer: onsemi; Manufacturer Part Number: ESDR0524SMUTAG; Distributor Link: https://www.mouser.de/ProductDetail/onsemi/ESDR0524SMUTAG?qs=NJQfjRgVp6Qe%2FuopsuIgOg%3D%3D; LCSC: C890633
footprint uDFN-10-WIDE
pins: 29, 38 GND, 47, 56, 110

## ESP32-C3
designator U?
Ultra­Low­Power SoC with RISC­V Single­Core CPU Supporting IEEE 802.11b/g/n (2.4 GHz Wi­Fi) and Bluetooth® 5 (LE); Manufacturer: Espressif; Manufacturer Part Number: ESP32-C3; LCSC: C2838500
footprint QFN32-5x5
pins: 1 LNA_IN (io), 2 VDD3P3 (power), 3 VDD3P3 (power), 4 XTAL_32K_P (io), 5 XTAL_32K_N (io), 6 GPIO2 (io), 7 CHIP_EN (in), 8 GPIO3 (io), 9 MTMS (io), 10 MTDI (io), 11 VDD3P3_RTC (power), 12 MTCK (io), 13 MTDO (io), 14 GPIO8 (io), 15 GPIO9 (io), 16 GPIO10 (io), 17 VDD3P3_CPU (power), 18 VDD_SPI (power), 19 SPIHD (io), 20 SPIWP (io), 21 SPICS0 (io), 22 SPICLK (io), 23 SPID (io), 24 SPIQ (io), 25 GPIO18 (io), 26 GPIO19 (io), 27 U0RXD (io), 28 U0TXD (io), 29 XTAL_N (in), 30 XTAL_P (in), 31 VDDA (power), 32 VDDA (power), 33 EP (power)
text: ESP32; C3

## ESP32-S3-WROOM-1-N4
designator U?
2.4 GHz Wi-Fi (802.11 b/g/n) and Bluetooth 5 (LE) Module ESP32-S3, 4MB Flash, on-board PCB antenna); Manufacturer: Espressif; Manufacturer Part Number: ESP32-S3-WROOM-1-N4; Distributor Link: https://www.mouser.de/ProductDetail/Espressif-Systems/ESP32-S3-WROOM-1-N4?qs=Li%252BoUPsLEnsO%2FkiJOUK0FQ%3D%3D
footprint ESP32-S3-WROOM-1
pins: 1 GND (power), 2 VCC (power), 3 EN (in), 4 IO4 (io), 5 IO5 (io), 6 IO6 (io), 7 IO7 (io), 8 IO15 (io), 9 IO16 (io), 10 IO17 (io), 11 IO18 (io), 12 IO8 (io), 13 IO19 (io), 14 IO20 (io), 15 IO3 (io), 16 IO46 (io), 17 IO9 (io), 18 IO10 (io), 19 IO11 (io), 20 IO12 (io), 21 IO13 (io), 22 IO14 (io), 23 IO21 (io), 24 IO47 (io), 25 IO48 (io), 26 IO45 (io), 27 IO0 (io), 28 IO35 (io), 29 IO36 (io), 30 IO37 (io), 31 IO38 (io), 32 IO39 (io), 33 IO40 (io), 34 IO41 (io), 35 IO42 (io), 36 RXD0 (in), 37 TXD0 (out), 38 IO2 (io), 39 IO1 (io), 40 GND (power), EP (power)
text: ESP32; S3-WROOM-1

## ESP32-WROOM-32
designator U?
Bluetooth, WiFi 802.11b/g/n, Bluetooth v4.2 +EDR, Class 1, 2 and 3 Transceiver Module 2.4GHz ~ 2.5GHz Antenna Not Included, U.FL Surface Mount; MP: ESP32-WROOM-32; MF: Espressif Systems; Price: None; Availability: In Stock; Package: Module Espressif Systems; SnapEDA_Link: https://www.snapeda.com/parts/ESP32-WROOM-32/Espressif+Systems/view-part/?ref=snap; Check_prices: https://www.snapeda.com/parts/ESP32-WROOM-32/Espressif+Systems/view-part/?ref=eda; Value: *; Purchase-URL: https://pricing.snapeda.com/search/part/ESP32-WROOM-32/?ref=eda
footprint MODULE_ESP32-WROOM-32
pins: 1 GND (power), 2 3V3 (power), 3 EN (in), 4 SENSOR_VP (in), 5 SENSOR_VN (in), 6 IO34 (in), 7 IO35 (in), 8 IO32 (io), 9 IO33 (io), 10 IO25 (io), 11 IO26 (io), 12 IO27 (io), 13 IO14 (io), 14 IO12 (io), 15 GND (power), 16 IO13 (io), 17 SHD/SD2 (io), 18 SWP/SD3 (io), 19 SCS/CMD (io), 20 SCK/CLK (io), 21 SDO/SD0 (io), 22 SDI/SD1 (io), 23 IO15 (io), 24 IO2 (io), 25 IO0 (io), 26 IO4 (io), 27 IO16 (io), 28 IO17 (io), 29 IO5 (io), 30 IO18 (io), 31 IO19 (io), 32 NC, 33 IO21 (io), 34 RXD0 (io), 35 TXD0 (io), 36 IO22 (io), 37 IO23 (io), 38 GND (power), 39 GND (power)

## ESP-12E
designator U?
ESP8266 ESP-12E Module (ESP8266, Castellated Holes); Manufacturer: AI-THINKER; Manufacturer Part Number: ESP-12E; Distributor Link: *
footprint ESP-12E
pins: 1 RST (in), 2 ADC (in), 3 EN (in), 4 IO16 (io), 5 IO14 (io), 6 IO12 (io), 7 IO13 (io), 8 VCC (power), 9 CS0 (io), 10 MISO (in), 11 IO9 (io), 12 IO10 (io), 13 MOSI (out), 14 SCLK (out), 15 GND (power), 16 IO15 (io), 17 IO2 (io), 18 IO0 (io), 19 IO4 (io), 20 IO5 (io), 21 RXD (in), 22 TXD (out)

## ETQ-P4M*KVK
designator L?
Inductor Power SMD PCC-M0840M-LP Series; Manufacturer: Panasonic; Manufacturer Part Number: ETQ-P4M*KVK; Distributor Link: *; LCSC: *
footprint IND_1008
footprint ETQP4M-KVK
pins: 1, 2

## F31L-1A7H1-11040
designator J?
Flex Connector, 0.50mm Pitch, Height 2.55mm, Right angle, Flip type, ZIF, 40 position; Manufacturer: Amphenol; Manufacturer Part Number: F31L-1A7H1-11040; Distributor Link: https://www.mouser.de/ProductDetail/Amphenol-Aorora/F31L-1A7H1-11040?qs=xZ%2FP%252Ba9zWqYDodVHBk05qA%3D%3D
footprint F31L-1A7H1-11040
pins: 1, 2, 3, 4, 5, 6, 7, 8, 9, 10, 11, 12, 13, 14, 15, 16, 17, 18, 19, 20, 21, 22, 23, 24, 25, 26, 27, 28, 29, 30, 31, 32, 33, 34, 35, 36, 37, 38, 39, 40, MP
text: Flex Connector ZIF 40-Position

## F52R-1A7H1-11010
designator J?
FFC/FPC Connector 1.00mm Pitch Bottom Contact ZIF 10 Positions; Manufacturer: Amphenol; Manufacturer Part Number: F52R-1A7H1-11010
footprint F52R-1A7H1-11010
pins: 1, 2, 3, 4, 5, 6, 7, 8, 9, 10, MH

## FB_0402
designator FB?, comment FB0402
Ferrite Bead SMD 0402; Manufacturer: *; Manufacturer Part Number: *; Distributor Link: *; LCSC: *
footprint FB_0402
pins: 1, 2

## FB_0603
designator FB?, comment FB0603
Ferrite Bead SMD 0603; Manufacturer: *; Manufacturer Part Number: *; Distributor Link: *; LCSC: *
footprint FB_0603 (Ferrite Bead 0603)
pins: 1, 2

## FB_0805
designator FB?, comment FB0805
Ferrite Bead SMD 0805; Manufacturer: *; Manufacturer Part Number: *; Distributor Link: *; LCSC: *
footprint FB_0805
pins: 1, 2

## FIDUCIAL_CROSS_1MM5
designator FM?, comment Fiducial Marker  (value not drawn)  (no BOM)
Fiducial Marker Cross 1.5mm NO BOM
footprint FIDUCIAL_CROSS_1MM5

## FOOTSWITCH_3PDT
designator SW?
Generic 3PDT Footswitch; Manufacturer: *; Manufacturer Part Number: *; Link: https://lovemyswitches.com/3pdt-latched-foot-switch-solder-lugs-black/
footprint FOOTSWITCH_3PDT
part A pins: COM1, NC1, NO1
part B pins: COM2, NC2, NO2
part C pins: COM3, NC3, NO3

## FOOTSWITCH_MOM
designator SW?  (value not drawn)
Header 2.54mm THT for Momentary SPST Footswitch
footprint SKRPANE010
footprint FOOTSWITCH_MOM
pins: 1, 2
text: FSW MOM

## FSUSB30MUX
designator U?
USB 2.0 High-Speed Switch MSOP-10; Manufacturer: ONSemi; Manufacturer Part Number: FSUSB30MUX
footprint MSOP-10
pins: 1 S, 2 HSD1+, 3 HSD2+, 4 D+, 5 GND, 6 D-, 7 HSD2-, 8 HSD1-, 9 ~{OE}, 10 VCC

## FT231XS-R
designator U?
USB Interface IC USB to Full Serial UART IC SSOP-20; Manufacturer: FTDI; Manufacturer Part Number: FT231XS-R
footprint SSOP20
pins: 1 DTR#, 2 RTS#, 3 VCCIO, 4 RXD, 5 RI#, 6 GND, 7 DSR#, 8 DCD#, 9 CTS#, 10 CBUS2, 11 USBDP, 12 USBDM, 13 3V3OUT, 14 RESET#, 15 VCC, 16 GND, 17 CBUS1, 18 CBUS0, 19 CBUS3, 20 TXD

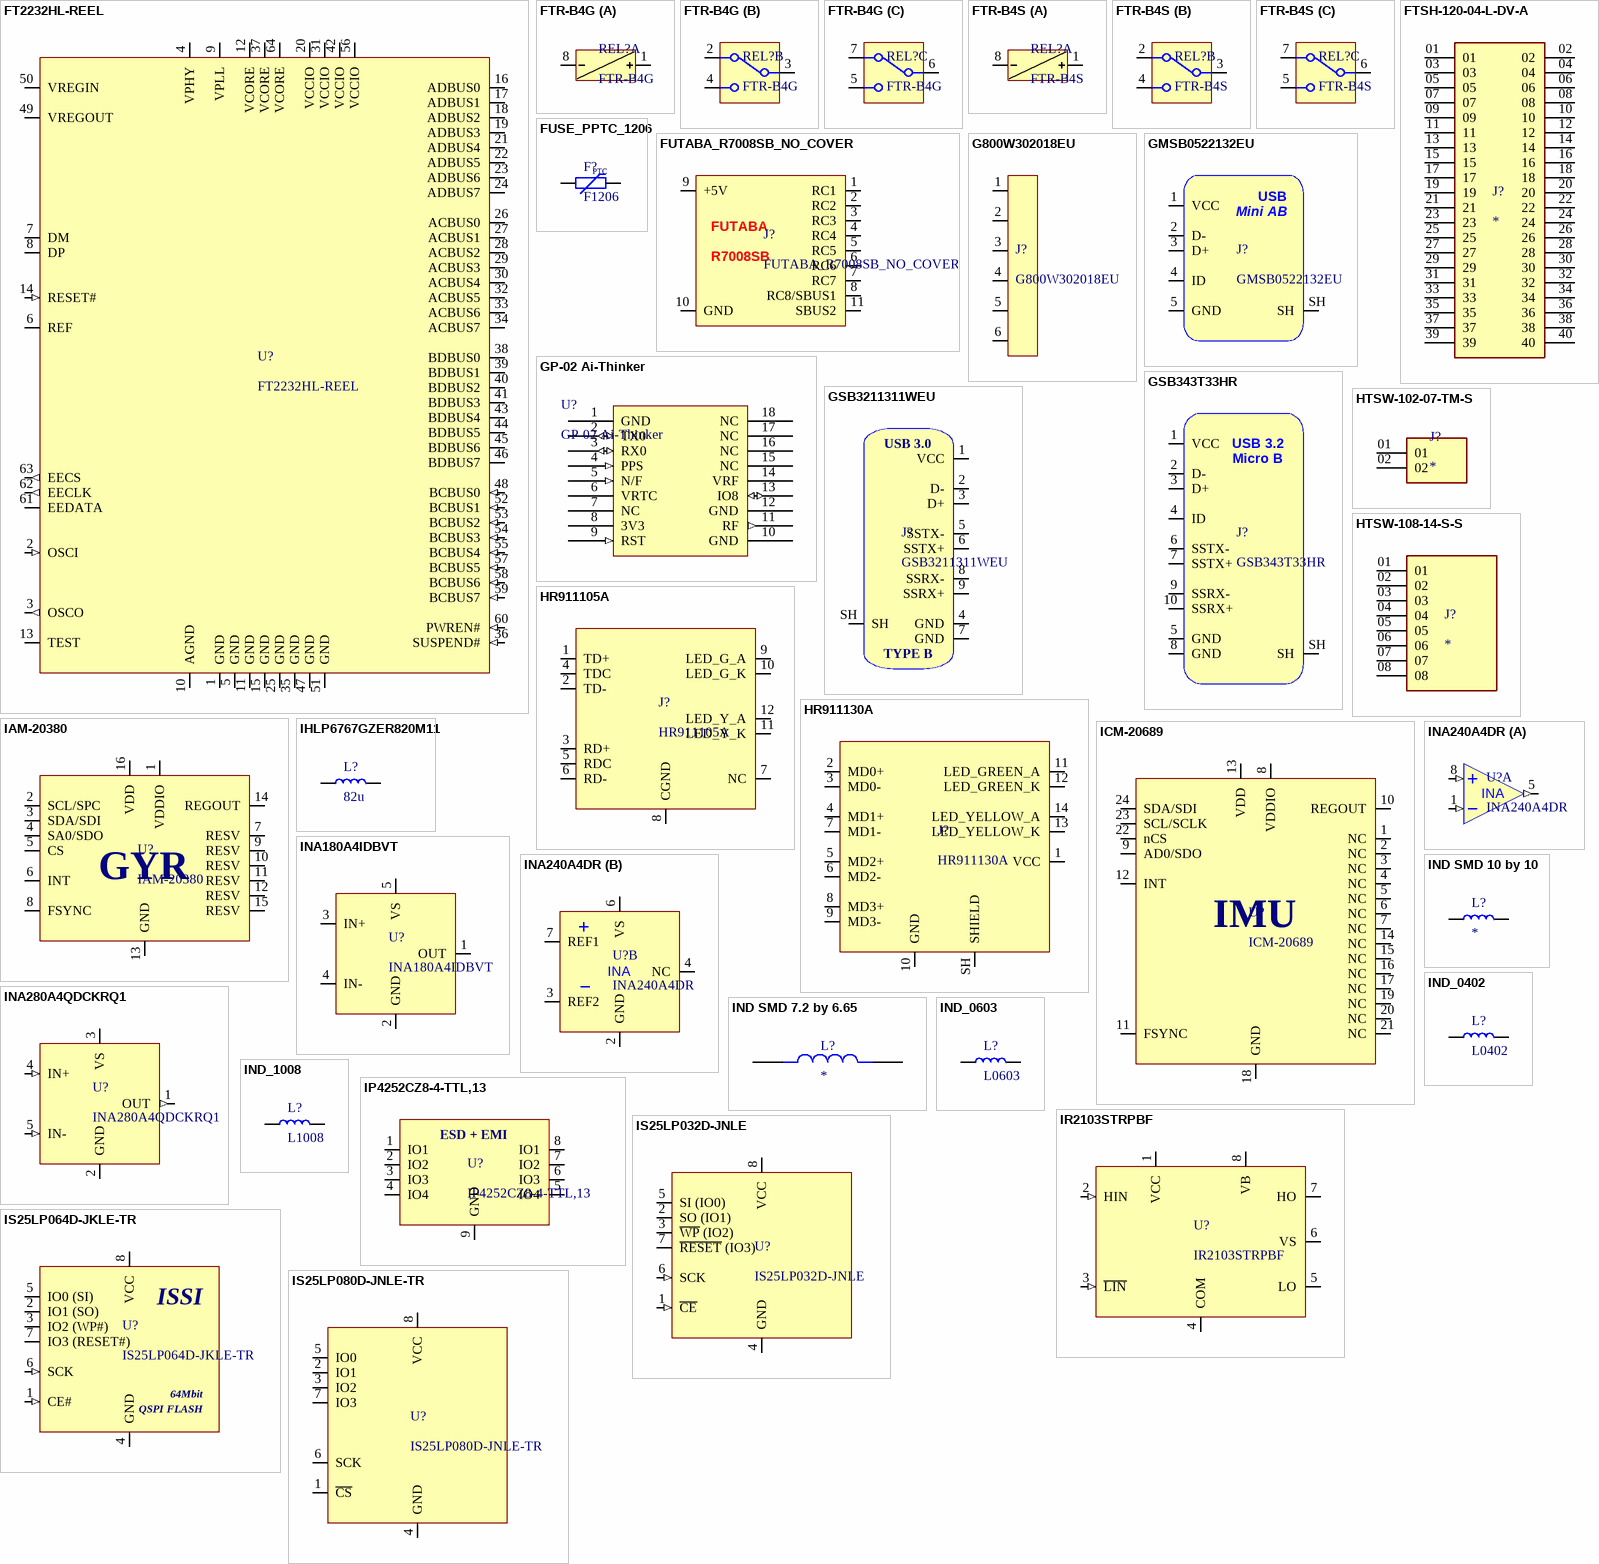
[diagram p12: symbols FT2232HL-REEL to IS25LP080D-JNLE-TR]

## FT2232HL-REEL
designator U?
Hi-Speed Dual USB UART/FIFO IC; Manufacturer: FTDI; Manufacturer Part Number: FT2232HL-REEL; Distributor Link: https://www.mouser.de/ProductDetail/FTDI/FT2232HL-REEL?qs=D1%2FPMqvA100v7FHcEx164g%3D%3D; LCSC: C27882
footprint LQFP-64-0.5mm (TSQFP, 64-Leads, Body 10.00x10.00mm, Pitch 0.50mm, IPC Medium Density)
pins: 1 GND (power), 2 OSCI (in), 3 OSCO (out), 4 VPHY (power), 5 GND (power), 6 REF, 7 DM (io), 8 DP (io), 9 VPLL (power), 10 AGND (power), 11 GND (power), 12 VCORE (power), 13 TEST, 14 RESET# (in), 15 GND (power), 16 ADBUS0 (io), 17 ADBUS1 (io), 18 ADBUS2 (io), 19 ADBUS3 (io), 20 VCCIO (power), 21 ADBUS4 (io), 22 ADBUS5 (io), 23 ADBUS6 (io), 24 ADBUS7 (io), 25 GND (power), 26 ACBUS0 (io), 27 ACBUS1 (io), 28 ACBUS2 (io), 29 ACBUS3 (io), 30 ACBUS4 (io), 31 VCCIO (power), 32 ACBUS5 (io), 33 ACBUS6 (io), 34 ACBUS7 (io), 35 GND (power), 36 SUSPEND# (in), 37 VCORE (power), 38 BDBUS0 (io), 39 BDBUS1 (io), 40 BDBUS2 (io), 41 BDBUS3 (io), 42 VCCIO (power), 43 BDBUS4 (io), 44 BDBUS5 (io), 45 BDBUS6 (io), 46 BDBUS7 (io), 47 GND (power), 48 BCBUS0 (in), 49 VREGOUT (power), 50 VREGIN (power), 51 GND (power), 52 BCBUS1 (in), 53 BCBUS2 (in), 54 BCBUS3 (in), 55 BCBUS4 (in), 56 VCCIO (power), 57 BCBUS5 (in), 58 BCBUS6 (in), 59 BCBUS7 (in), 60 PWREN# (in), 61 EEDATA (io), 62 EECLK (out), 63 EECS (out), 64 VCORE (power)

## FTR-B4G
designator REL?
Ultra-Miniature Relay DPDT SMT; Manufacturer: Fujitsu; Manufacturer Part Number: FTR-B4G
footprint FTR-B4G
part A pins: 1 VCC, 8 VSS
part B pins: 2 NC1, 3 COM1, 4 NO1
part C pins: 5 NO2, 6 COM2, 7 NC2

## FTR-B4S
designator REL?
Ultra-Miniature Relay DPDT Space-Saving; Manufacturer: Fujitsu; Manufacturer Part Number: FTR-B4S
footprint FTR-B4S
part A pins: 1 VCC, 8 VSS
part B pins: 2 NC1, 3 COM1, 4 NO1
part C pins: 5 NO2, 6 COM2, 7 NC2

## FTSH-120-04-L-DV-A
designator J?
MP: FTSH-120-04-L-DV-A; MF: Samtec; Value: *; Package: None; Price: None; Availability: Unavailable
footprint SAMTEC_FTSH-120-04-L-DV-A
pins: 01, 02, 03, 04, 05, 06, 07, 08, 09, 10, 11, 12, 13, 14, 15, 16, 17, 18, 19, 20, 21, 22, 23, 24, 25, 26, 27, 28, 29, 30, 31, 32, 33, 34, 35, 36, 37, 38, 39, 40

## FUSE_PPTC_1206
designator F?, comment F1206
Fuse PPTC SMD 1206; Manufacturer: *; Manufacturer Part Number: *
footprint FUSE_1206
pins: 1, 2
text: PTC

## FUTABA_R7008SB_NO_COVER
designator J?  (no BOM)
Futaba R7008SB Solder Pads
footprint FUTABA_R7008SB_NO_COVER
pins: 1 RC1, 2 RC2, 3 RC3, 4 RC4, 5 RC5, 6 RC6, 7 RC7, 8 RC8/SBUS1, 9 +5V, 10 GND, 11 SBUS2
text: FUTABA; R7008SB

## G800W302018EU
designator J?
Pin Header 6 Position 2.54mm Pitch; Manufacturer: Amphenol; Manufacturer Part Number: G800W302018EU
footprint G800W302018EU
pins: 1, 2, 3, 4, 5, 6

## GMSB0522132EU
designator J?
USB 2.0 Mini AB Receptacle Right Angle Through-Hole; Manufacturer: Amphenol; Manufacturer Part Number: GMSB0522132EU
footprint GMSB0522132EU
pins: 1 VCC (power), 2 D- (io), 3 D+ (io), 4 ID, 5 GND (power), SH (power)
text: USB; Mini AB

## GP-02 Ai-Thinker
designator U?
Ai-Thinker Gps Module GP-02
footprint GP-02 Ai-Thinker
pins: 1 GND (power), 2 TX0 (io), 3 RX0 (io), 4 PPS (in), 5 N/F (in), 6 VRTC (power), 7 NC, 8 3V3 (power), 9 RST (in), 10 GND (power), 11 RF (out), 12 GND (power), 13 IO8 (io), 14 VRF (power), 15 NC, 16 NC, 17 NC, 18 NC

## GSB343T33HR
designator J?
Micro USB 3.2, Type B, Receptacle, Right Angle SMT, High Rise, 5.25mm Height, 10 Pins, Shell with Nickel Plating, 30μin Gold, Black Housing; Manufacturer: Amphenol; Manufacturer Part Number: GSB343T33HR; Distributor Link: https://www.mouser.de/ProductDetail/Amphenol-Commercial-Products/GSB343T33HR?qs=8nwx9VzGl4wjI7K6xpTSyQ%3D%3D; LCSC: C5428255
footprint GSB343T33HR
pins: 1 VCC (power), 2 D- (power), 3 D+ (power), 4 ID, 5 GND (power), 6 SSTX- (io), 7 SSTX+ (io), 8 GND (power), 9 SSRX- (io), 10 SSRX+ (io), SH
text: USB 3.2; Micro B

## GSB3211311WEU
designator J?
USB Connector Type B 3.0 Through-Hole; Manufacturer: Amphenol; Manufacturer Part Number: GSB3211311WEU
footprint GSB3211311WEU
pins: 1 VCC, 2 D-, 3 D+, 4 GND, 5 SSTX-, 6 SSTX+, 7 GND, 8 SSRX-, 9 SSRX+, SH
text: USB 3.0; TYPE B

## HR911105A
designator J?
Single Port RJ45 Connector w/ Integrated Magnetic and LED 10/100 Base-T; Manufacturer: HanRun; Manufacturer Part Number: HR911105A
footprint HR911105A
pins: 1 TD+, 2 TD-, 3 RD+, 4 TDC, 5 RDC, 6 RD-, 7 NC, 8 CGND, 9 LED_G_A, 10 LED_G_K, 11 LED_Y_K, 12 LED_Y_A

## HR911130A
designator J?
100/1000Base-T Magnetics Single-Port RJ45 Connector with Integrated Magnetics and LEDs; Manufacturer: Hanrun; Manufacturer Part Number: HR911130A
footprint HR911130A
pins: 1 VCC, 2 MD0+, 3 MD0-, 4 MD1+, 5 MD2+, 6 MD2-, 7 MD1-, 8 MD3+, 9 MD3-, 10 GND, 11 LED_GREEN_A, 12 LED_GREEN_K, 13 LED_YELLOW_K, 14 LED_YELLOW_A, SH SHIELD

## HTSW-102-07-TM-S
designator J?
HEADER, 2 CONTACTS, 1 ROW, THROUGH HOLE, 2.54 MM; Connector Systems:Board-to-Board; Pitch Spacing:2.54mm; No. of Rows:1Rows; No. of Contacts:2Contacts; Contact Termination Type:Through Hole; Product Range:HTSW Series; Gender:Header RoHS Compliant: Yes; MP: HTSW10207TMS; MF: Samtec; SnapEDA_Link: https://www.snapeda.com/parts/HTSW10207TMS/Samtec/view-part/?ref=snap; Value: *; Purchase-URL: https://pricing.snapeda.com/search/part/HTSW10207TMS/?ref=eda; Availability: In Stock; Check_prices: https://www.snapeda.com/parts/HTSW10207TMS/Samtec/view-part/?ref=eda; Package: None; Price: None
footprint SAMTEC_HTSW-102-07-TM-S
pins: 01, 02

## HTSW-108-14-S-S
designator J?
MP: HTSW-108-14-S-S; Value: *; Availability: Unavailable; Price: None; Package: None
footprint SAMTEC_HTSW-108-14-S-S
pins: 01, 02, 03, 04, 05, 06, 07, 08

## IAM-20380
designator U?
High Performance MEMS Gyroscope 3-Axis I2C/SPI; Manufacturer: TDK InvenSense; Manufacturer Part Number: IAM-20380
footprint QFN50P300X300X80_HS-17N (QFN, 16-Leads, Body 3.00x3.00mm, Pitch 0.50mm, Thermal Pad 1.00x1.00mm, IPC Medium Density)
pins: 1 VDDIO, 2 SCL/SPC, 3 SDA/SDI, 4 SA0/SDO, 5 CS, 6 INT, 7 RESV, 8 FSYNC, 9 RESV, 10 RESV, 11 RESV, 12 RESV, 13 GND, 14 REGOUT, 15 RESV, 16 VDD
text: GYR

## ICM-20689
designator U?
High Performance 6-Axis MEMS IMU; Manufacturer: TDK InvenSense; Manufacturer Part Number: ICM-20689
footprint QFN50P400X400X95_HS-25N (QFN, 24-Leads, Body 4.00x4.00mm, Pitch 0.50mm, Thermal Pad 2.60x2.70mm, IPC Medium Density)
pins: 1 NC, 2 NC, 3 NC, 4 NC, 5 NC, 6 NC, 7 NC, 8 VDDIO, 9 AD0/SDO, 10 REGOUT, 11 FSYNC, 12 INT, 13 VDD, 14 NC, 15 NC, 16 NC, 17 NC, 18 GND, 19 NC, 20 NC, 21 NC, 22 nCS, 23 SCL/SCLK, 24 SDA/SDI
text: IMU

## IHLP6767GZER820M11
designator L?, comment 82u
Inductor SMD Vishay IHLP6767GZER820M11; Manufacturer: Vishay; Manufacturer Part Number: IHLP6767GZER820M11
footprint IHLP6767GZER820M11
pins: 1, 2

## INA180A4IDBVT
designator U?
Current Sense Amplifier 200V/V Gain 105kHz BW SOT-23-5; Manufacturer: Texas Instruments; Manufacturer Part Number: INA180A4IDBVT
footprint SOT-23-5 (SOT23, 5-Leads, Body 2,90x2,80mm, Pitch 0,95mm, IPC Medium Density)
pins: 1 OUT, 2 GND, 3 IN+, 4 IN-, 5 VS

## INA240A4DR
designator U?
INA240 –4-V to 80-V, Bidirectional, Ultra-Precise Current Sense Amplifier With / Enhanced PWM Rejection, Gain=200V/V; Manufacturer: Texas Instruments; Manufacturer Part Number: INA240A4DR
footprint SOIC-8 (SOIC, 8-Leads, Body 4.91x3.90mm, Pitch 1.27mm, IPC Medium Density)
part A pins: 1 IN- (in), 5 OUT (out), 8 IN+ (in)
part B pins: 2 GND, 3 REF2, 4 NC, 6 VS, 7 REF1
part A text: INA
part B text: INA

## INA280A4QDCKRQ1
designator U?
2.7-V to 120-V, 1.1-MHz, High Precision Current Sense Amplifier Gain 200V/V SC-70-5; Manufacturer: Texas Instruments; Manufacturer Part Number: INA280A4QDCKRQ1
footprint SC-70-5
pins: 1 OUT (out), 2 GND (power), 3 VS (power), 4 IN+ (in), 5 IN- (in)

## IND SMD 7.2 by 6.65
designator L?
10.0UH, 7.0A, 3.0A, IRON CORE, Â±20%, SHIELDED, 102.0M?, 7.2 X 6.65 X 3.0MM, SURFACE MOUNT; MP: ASPI-0630HI-100M-T15; MF: Abracon LLC; Check_prices: https://www.snapeda.com/parts/ASPI-0630HI-100M-T15/Abracon+LLC/view-part/?ref=eda; Availability: In Stock; Package: Nonstandard Abracon; Purchase-URL: https://pricing.snapeda.com/search/part/ASPI-0630HI-100M-T15/?ref=eda; Value: *; SnapEDA_Link: https://www.snapeda.com/parts/ASPI-0630HI-100M-T15/Abracon+LLC/view-part/?ref=snap; Price: None
footprint IND_ASPI-0630HI-100M-T15
pins: 1, 2

## IND SMD 10 by 10
designator L?
Power Inductor SMD ASPI-4030S Series; Manufacturer: ABRACON; Manufacturer Part Number: ASPI-4030S*; Distirbutor Link: *
footprint ASPI-4030S
pins: 1, 2

## IND_0402
designator L?, comment L0402
Inductor SMD 0402
footprint IND_0402
pins: 1, 2

## IND_0603
designator L?, comment L0603
Inductor SMD 0603
footprint IND_0603
pins: 1, 2

## IND_1008
designator L?, comment L1008
Inductor SMD 1008
footprint IND_1008
pins: 1, 2

## IP4252CZ8-4-TTL,13
designator U?
Integrated 4 passive filter network / with ESD protection C=12pF Vwork=5.6V
footprint SON40P140X55_HS-9N (SON, 8-Leads, Body 1,70x1,35mm, Pitch 0,40mm, Thermal Pad 1,20x0,24mm, IPC Medium Density)
pins: 1 IO1, 2 IO2, 3 IO3, 4 IO4, 5 IO4, 6 IO3, 7 IO2, 8 IO1, 9 GND
text: ESD + EMI

## IR2103STRPBF
designator U?
Half-Bridge Driver SOIC-8; Manufacturer: Infineon Technologies; Manufacturer Part Number: IR2103STRPBF
footprint SOIC-8 (SOIC, 8-Leads, Body 4.91x3.90mm, Pitch 1.27mm, IPC Medium Density)
pins: 1 VCC (power), 2 HIN (in), 3 ~{LIN} (in), 4 COM (power), 5 LO (power), 6 VS (power), 7 HO (power), 8 VB (power)

## IS25LP032D-JNLE
designator U?
32Mb SERIAL FLASH MEMORY WITH 133MHZ MULTI I/O SPI & / QUAD I/O QPI DTR INTERFACE SOIC-8; Manufacturer: ISSI; Manufacturer Part Number: IS25LP032D-JNLE
footprint SOIC-8 (SOIC, 8-Leads, Body 4.91x3.90mm, Pitch 1.27mm, IPC Medium Density)
pins: 1 ~{CE} (in), 2 SO (IO1) (io), 3 ~{WP} (IO2) (io), 4 GND (power), 5 SI (IO0) (io), 6 SCK (in), 7 ~{RESET} (IO3) (io), 8 VCC (power)

## IS25LP064D-JKLE-TR
designator U?
64Mb SERIAL FLASH MEMORY WITH 166MHZ MULTI I/O SPI & QUAD I/O QPI DTR INTERFACE WSON-8 (6x5mm); Manufacturer: ISSI; Manufacturer Part Number: IS25LP064D-JKLE-TR
footprint WSON-8-6x5mm
pins: 1 CE# (in), 2 IO1 (SO) (io), 3 IO2 (WP#) (io), 4 GND (power), 5 IO0 (SI) (io), 6 SCK (in), 7 IO3 (RESET#) (io), 8 VCC
text: 64Mbit; QSPI FLASH

## IS25LP080D-JNLE-TR
designator U?
QSPI NOR Flash Memory 8 Mbit SOIC-8; Manufacturer: ISSI; Manufacturer Part Number: IS25LP080D-JNLE-TR
footprint SOIC-8 (SOIC, 8-Leads, Body 4.91x3.90mm, Pitch 1.27mm, IPC Medium Density)
pins: 1 ~{CS}, 2 IO1, 3 IO2, 4 GND (power), 5 IO0, 6 SCK, 7 IO3, 8 VCC (power)

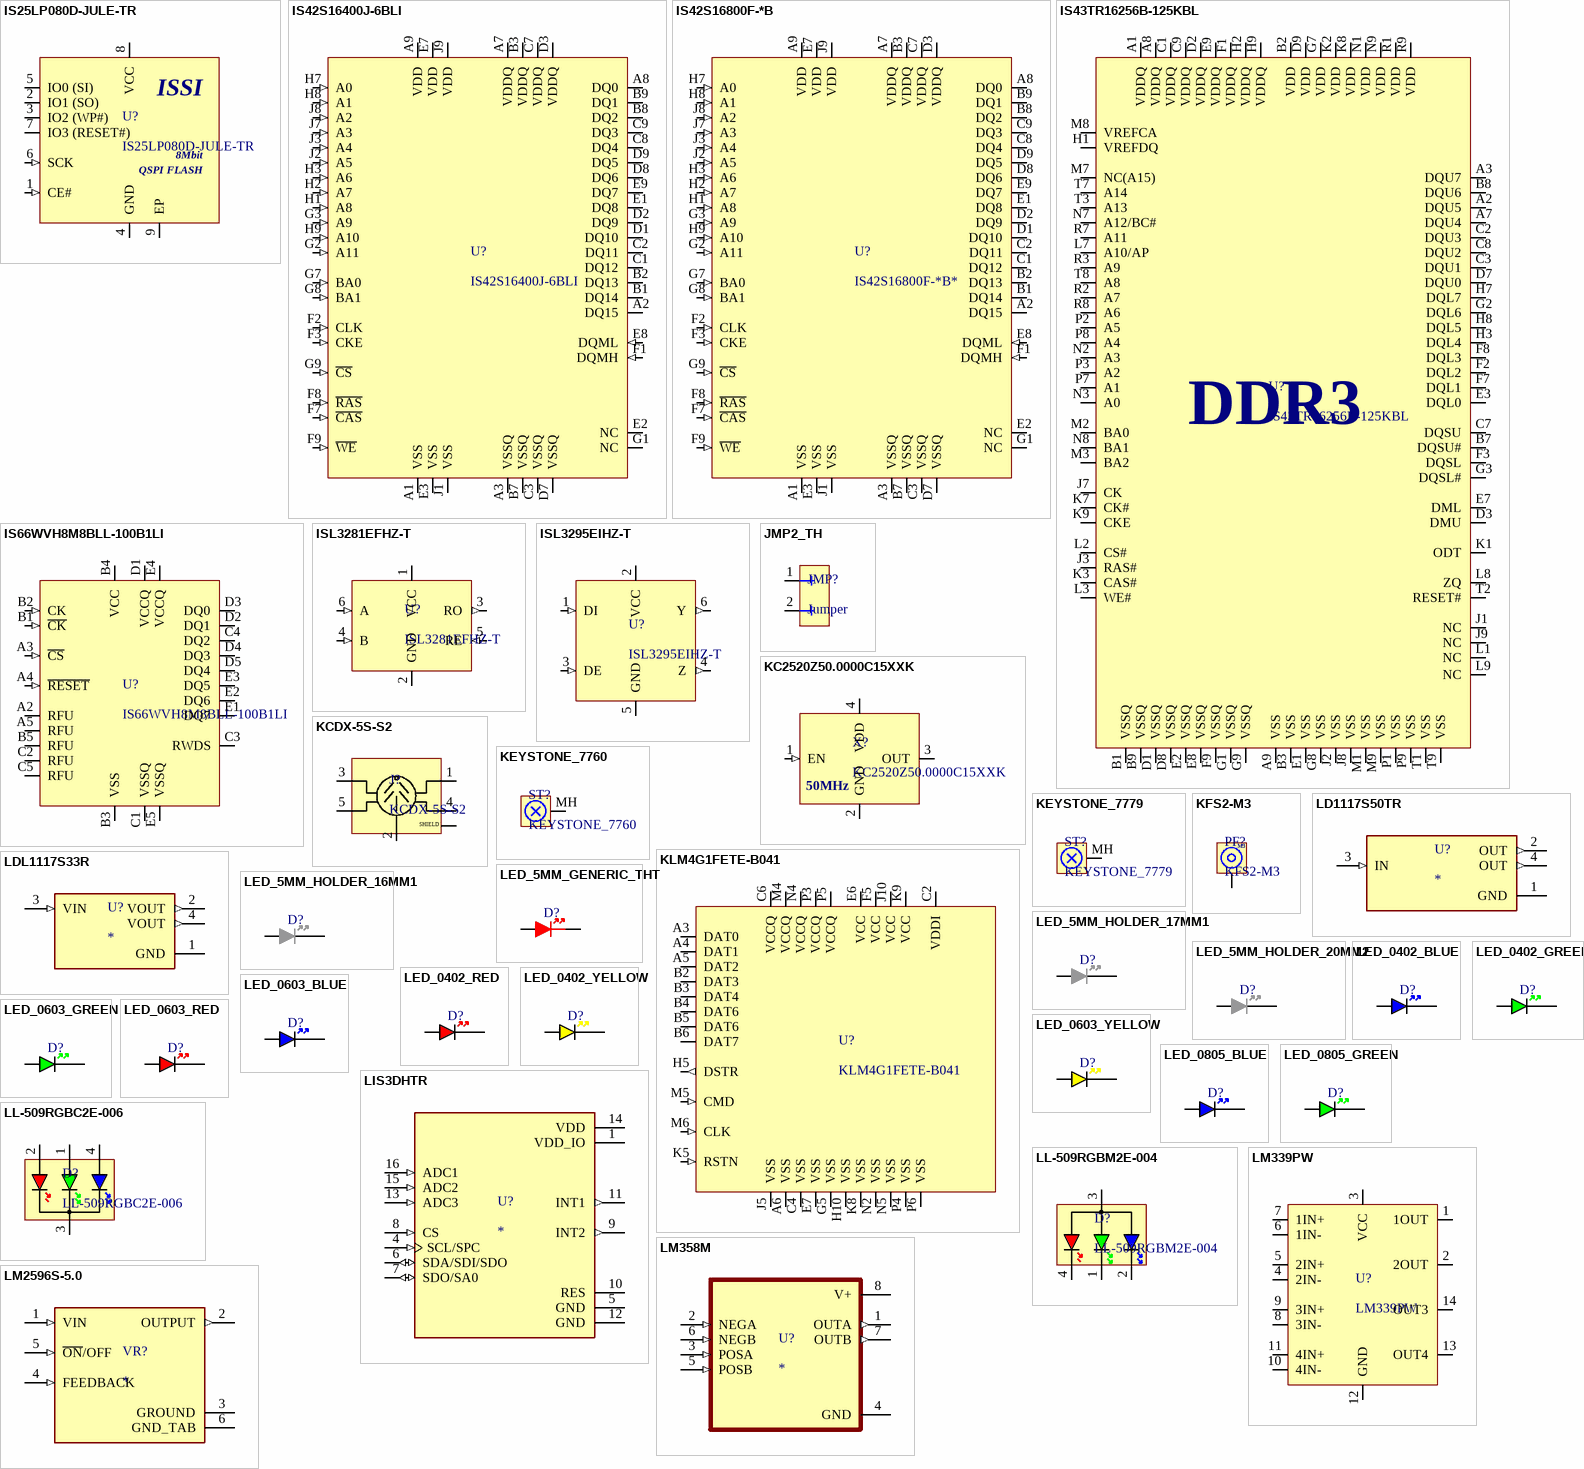
[diagram p13: symbols IS25LP080D-JULE-TR to LM2596S-5.0]

## IS25LP080D-JULE-TR
designator U?
8Mb SERIAL FLASH MEMORY WITH 133MHZ MULTI I/O SPI & QUAD I/O QPI DTR INTERFACE WSON-8 (6x5mm); Manufacturer: ISSI; Manufacturer Part Number: IS25LP080D-JULE-TR
footprint USON-8-2X3MM
pins: 1 CE# (in), 2 IO1 (SO) (io), 3 IO2 (WP#) (io), 4 GND (power), 5 IO0 (SI) (io), 6 SCK (in), 7 IO3 (RESET#) (io), 8 VCC, 9 EP (power)
text: 8Mbit; QSPI FLASH

## IS42S16400J-6BLI
designator U?
SDRAM 64Mbit 8Mx16 166Mhz 3.3V 54-ball BGA; Manufacturer: ISSI; Manufacturer Part Number: IS42S16400J-6BLI; Distributor Link: https://www.mouser.de/ProductDetail/ISSI/IS42S16400J-6BLI?qs=Fza4peKjXe%2F8S88YWH645Q%3D%3D
footprint BGA54C80P9X9_800X800X120 (BGA, 54-Leads, Body 8.00x8.00mmx1.20mm, Pitch 0.80mm)
pins: A1 VSS (power), A2 DQ15 (io), A3 VSSQ (power), A7 VDDQ (power), A8 DQ0 (io), A9 VDD (power), B1 DQ14 (io), B2 DQ13 (io), B3 VDDQ (power), B7 VSSQ (power), B8 DQ2 (io), B9 DQ1 (io), C1 DQ12 (io), C2 DQ11 (io), C3 VSSQ (power), C7 VDDQ (power), C8 DQ4 (io), C9 DQ3 (io), D1 DQ10 (io), D2 DQ9 (io), D3 VDDQ (power), D7 VSSQ (power), D8 DQ6 (io), D9 DQ5 (io), E1 DQ8 (io), E2 NC, E3 VSS (power), E7 VDD (power), E8 DQML (in), E9 DQ7 (io), F1 DQMH (in), F2 CLK (in), F3 CKE (in), F7 ~{CAS} (in), F8 ~{RAS} (in), F9 ~{WE} (in), G1 NC, G2 A11 (in), G3 A9 (in), G7 BA0 (in), G8 BA1 (in), G9 ~{CS} (in), H1 A8 (in), H2 A7 (in), H3 A6 (in), H7 A0 (in), H8 A1 (in), H9 A10 (in), J1 VSS (power), J2 A5 (in), J3 A4 (in), J7 A3 (in), J8 A2 (in), J9 VDD (power)

## IS42S16800F-*B
designator U?, comment IS42S16800F-*B*
SDRAM 128Mbit 8Mx16 143Mhz 3.3V 54-ball BGA; Manufacturer: ISSI; Manufacturer Part Number: IS42S16800F-*B*
footprint BGA54C80P9X9_800X800X120 (BGA, 54-Leads, Body 8.00x8.00mmx1.20mm, Pitch 0.80mm)
pins: A1 VSS (power), A2 DQ15 (io), A3 VSSQ (power), A7 VDDQ (power), A8 DQ0 (io), A9 VDD (power), B1 DQ14 (io), B2 DQ13 (io), B3 VDDQ (power), B7 VSSQ (power), B8 DQ2 (io), B9 DQ1 (io), C1 DQ12 (io), C2 DQ11 (io), C3 VSSQ (power), C7 VDDQ (power), C8 DQ4 (io), C9 DQ3 (io), D1 DQ10 (io), D2 DQ9 (io), D3 VDDQ (power), D7 VSSQ (power), D8 DQ6 (io), D9 DQ5 (io), E1 DQ8 (io), E2 NC, E3 VSS (power), E7 VDD (power), E8 DQML (in), E9 DQ7 (io), F1 DQMH (in), F2 CLK (in), F3 CKE (in), F7 ~{CAS} (in), F8 ~{RAS} (in), F9 ~{WE} (in), G1 NC, G2 A11 (in), G3 A9 (in), G7 BA0 (in), G8 BA1 (in), G9 ~{CS} (in), H1 A8 (in), H2 A7 (in), H3 A6 (in), H7 A0 (in), H8 A1 (in), H9 A10 (in), J1 VSS (power), J2 A5 (in), J3 A4 (in), J7 A3 (in), J8 A2 (in), J9 VDD (power)

## IS43TR16256B-125KBL
designator U?
DRAM 4GBit, 1.5V, DDR3, 256Mx16, 1600MT/s @ 11-11-11, 96 ball BGA (9mm x13mm) RoHS; Manufacturer: ISSI; Manufacturer Part Number: IS43TR16256B-125KBL
footprint BGA96C80P9X16_900X1300X120 (BGA, 96-Leads, Body 9.00x13.00mmx1.20mm, Pitch 0.80mm)
pins: A1 VDDQ, A2 DQU5, A3 DQU7, A7 DQU4, A8 VDDQ, A9 VSS, B1 VSSQ, B2 VDD, B3 VSS, B7 DQSU#, B8 DQU6, B9 VSSQ, C1 VDDQ, C2 DQU3, C3 DQU1, C7 DQSU, C8 DQU2, C9 VDDQ, D1 VSSQ, D2 VDDQ, D3 DMU, D7 DQU0, D8 VSSQ, D9 VDD, E1 VSS, E2 VSSQ, E3 DQL0, E7 DML, E8 VSSQ, E9 VDDQ, F1 VDDQ, F2 DQL2, F3 DQSL, F7 DQL1, F8 DQL3, F9 VSSQ, G1 VSSQ, G2 DQL6, G3 DQSL#, G7 VDD, G8 VSS, G9 VSSQ, H1 VREFDQ, H2 VDDQ, H3 DQL4, H7 DQL7, H8 DQL5, H9 VDDQ, J1 NC, J2 VSS, J3 RAS#, J7 CK, J8 VSS, J9 NC, K1 ODT, K2 VDD, K3 CAS#, K7 CK#, K8 VDD, K9 CKE, L1 NC, L2 CS#, L3 WE#, L7 A10/AP, L8 ZQ, L9 NC, M1 VSS, M2 BA0, M3 BA2, M7 NC(A15), M8 VREFCA, M9 VSS, N1 VDD, N2 A3, N3 A0, N7 A12/BC#, N8 BA1, N9 VDD, P1 VSS, P2 A5, P3 A2, P7 A1, P8 A4, P9 VSS, R1 VDD, R2 A7, R3 A9, R7 A11, R8 A6, R9 VDD, T1 VSS, T2 RESET#, T3 A13, T7 A14, T8 A8, T9 VSS
text: DDR3

## IS66WVH8M8BLL-100B1LI
designator U?
64Mbit (8Mx8) HyperRAM 100MHz; Manufacturer: ISSI; Manufacturer Part Number: IS66WVH8M8BLL-100B1LI; Distributor Link: https://www.mouser.de/ProductDetail/ISSI/IS66WVH8M8BLL-100B1LI?qs=K1oHB112QgngRH5bU%252BIWKA%3D%3D
footprint TFBGA-24-6X8X1MM2
pins: A2 RFU, A3 ~{CS} (in), A4 ~{RESET} (in), A5 RFU, B1 ~{CK} (in), B2 CK (in), B3 VSS (power), B4 VCC (power), B5 RFU, C1 VSSQ (power), C2 RFU, C3 RWDS (io), C4 DQ2 (io), C5 RFU, D1 VCCQ (power), D2 DQ1 (io), D3 DQ0 (io), D4 DQ3 (io), D5 DQ4 (io), E1 DQ7 (io), E2 DQ6 (io), E3 DQ5 (io), E4 VCCQ (power), E5 VSSQ (power)

## ISL3281EFHZ-T
designator U?
RS-485/RS-422 Single Receiver 3.0V to 5.5V ESD Protected; Manufacturer: Renesas Electronics; Manufacturer Part Number: ISL3281EFHZ-T
footprint SOT-23-6
pins: 1 VCC (power), 2 GND (power), 3 RO (out), 4 B (in), 5 RE (in), 6 A (in)

## ISL3295EIHZ-T
designator U?
RS-485/RS-422 Transmitter, ±16.5kV ESD Protected, +125°C, 3.0V to 5.5V, SOT-23-6, Low Power; Manufacturer: Renesas; Manufacturer Part Number: ISL3295EIHZ-T
footprint SOT-23-6
pins: 1 DI (in), 2 VCC (power), 3 DE (in), 4 Z (out), 5 GND (power), 6 Y (out)

## JMP2_TH
designator JMP?, comment Jumper
Jumper 2 Pins Through-Hole DO NOT PLACE
footprint JMP2_TH
pins: 1, 2

## KC2520Z50.0000C15XXK
designator X?
Standard Clock Oscillators 50 MHz 30 PPM 15 pF 1.71 V to 3.63 V 2.5mm x 2.0mm; Manufacturer: Kyocera; Manufacturer Part Number: KC2520Z50.0000C15XXK
footprint SSOP5
footprint XTAL_2520
pins: 1 EN (in), 2 GND (power), 3 OUT, 4 VDD (power)
text: 50MHz

## KCDX-5S-S2
designator J?
Circular DIN Receptacle 5-Position Shielded Through-Hole Right-Angle; Manufacturer: Kycon; Manufacturer Part Number: KCDX-5S-S2; Distributor Link: https://www.mouser.de/ProductDetail/Kycon/KCDX-5S-S2?qs=Hyo%2FOIDW0pNotQHJom5wpw%3D%3D
footprint KCDX-5S-S2
pins: 1, 2, 3, 4, 5, SH
text: SHIELD